# Altium schematic symbol library ST Microcontroller 32-Bit ARM.SchLib: 73 symbols (part 3 of 5)
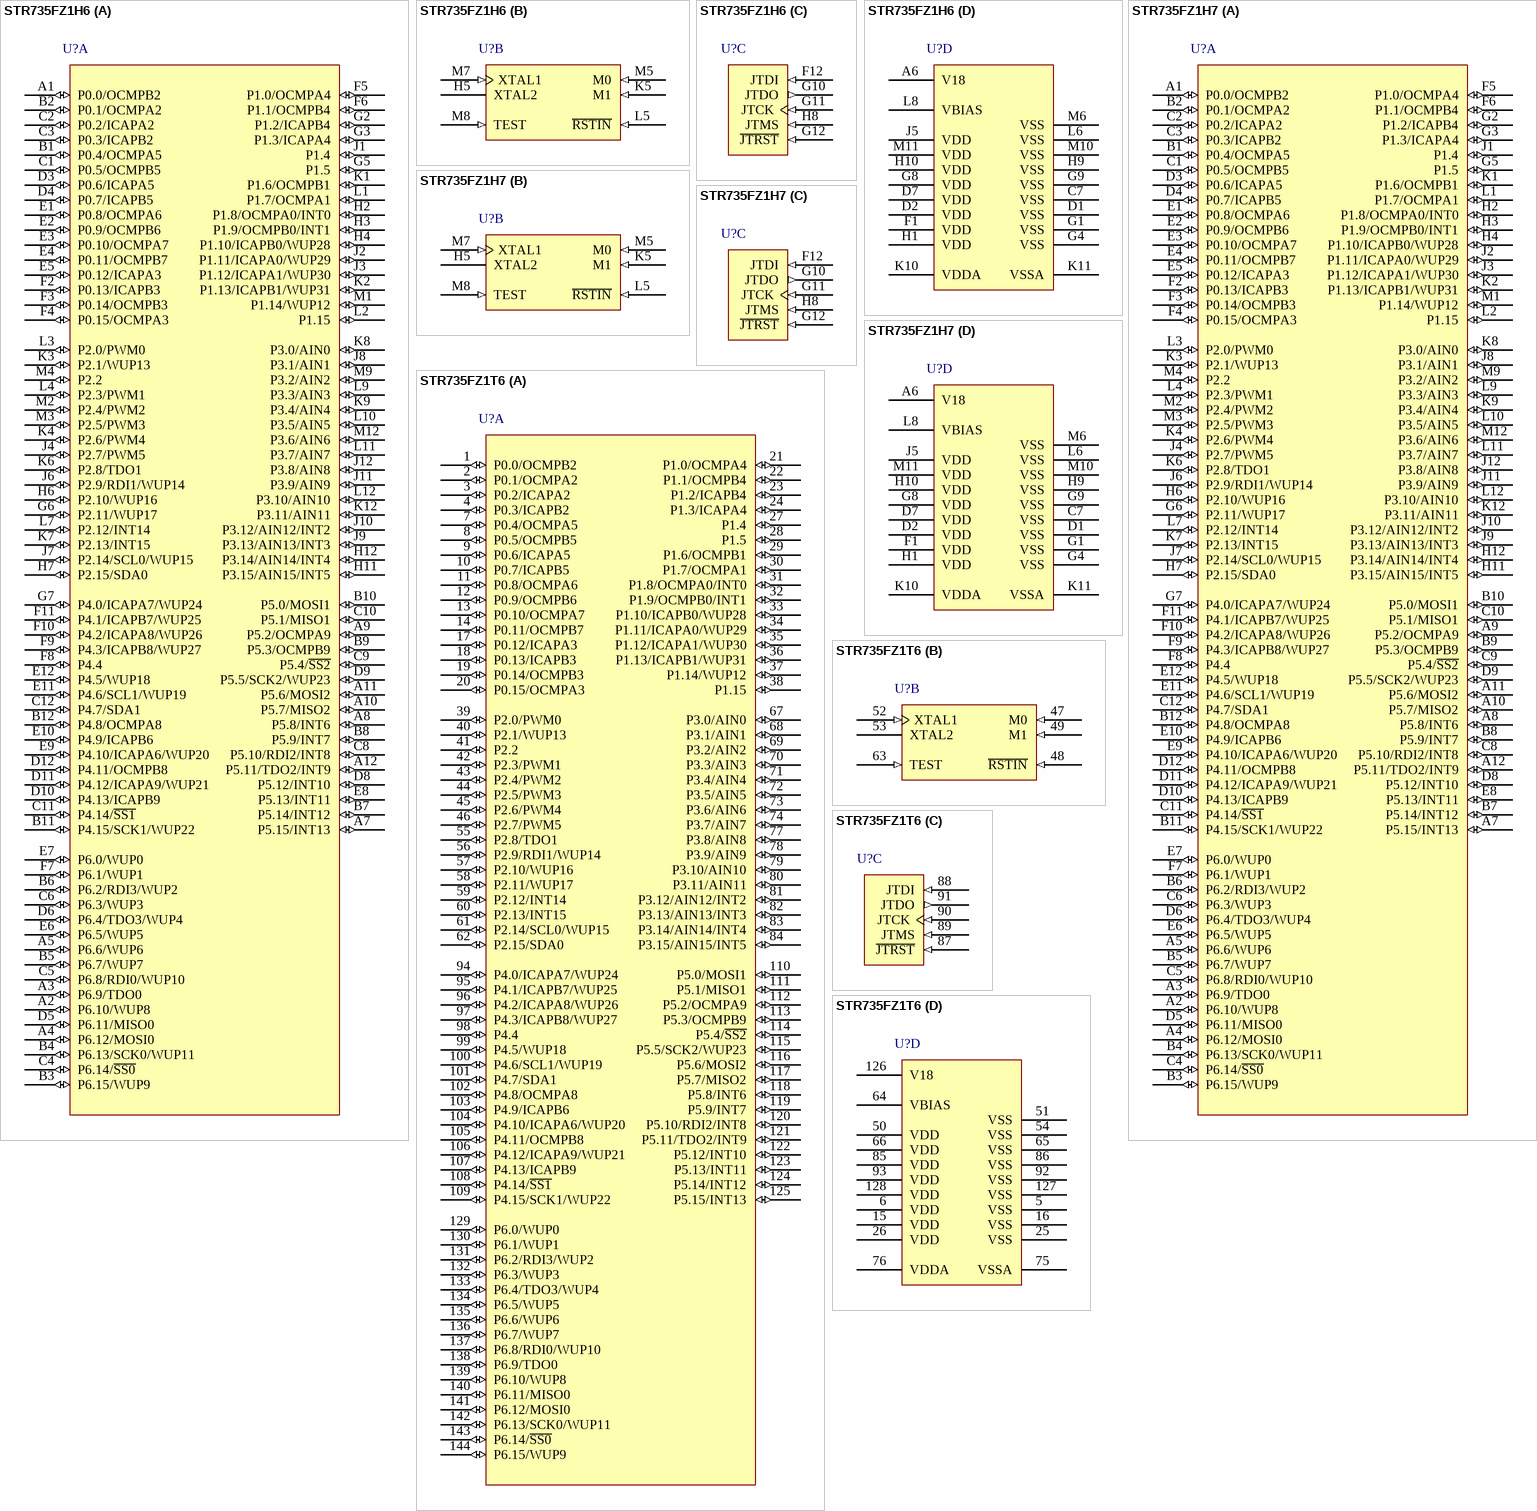
[diagram p23: symbols STR735FZ1H6 to STR735FZ1T6]

## STR735FZ1H6
designator U?
ARM7TDMI-S 32-Bit RISC CPU, 128KB Flash Memory, 144-ball LFBGA; Published: 12-Dec-2006; DatasheetVersion: rev6, Sep-2006; PackageVersion: Sep-2006; PackageReference: LFBGA144; Publisher: Altium Limited; PackageDescription: 144-Ball Low Profile Fine Pitch Ball Grid Array; ComponentLink1Description: Manufacturer Link; ComponentLink1URL: http://www.st.com/; ComponentLink2Description: Datasheet; ComponentLink2URL: http://www.st.com/stonline/products/literature/ds/11651.pdf
footprint LFBGA144 (BGA, 144-Leads, Body 10x10mm, Pitch 0.8mm)
part A pins: A1 P0.0/OCMPB2 (io), A2 P6.10/WUP8 (io), A3 P6.9/TDO0 (io), A4 P6.12/MOSI0 (io), A5 P6.6/WUP6 (io), A7 P5.15/INT13 (io), A8 P5.8/INT6 (io), A9 P5.2/OCMPA9 (io), A10 P5.7/MISO2 (io), A11 P5.6/MOSI2 (io), A12 P5.11/TDO2/INT9 (io), B1 P0.4/OCMPA5 (io), B2 P0.1/OCMPA2 (io), B3 P6.15/WUP9 (io), B4 P6.13/SCK0/WUP11 (io), B5 P6.7/WUP7 (io), B6 P6.2/RDI3/WUP2 (io), B7 P5.14/INT12 (io), B8 P5.9/INT7 (io), B9 P5.3/OCMPB9 (io), B10 P5.0/MOSI1 (io), B11 P4.15/SCK1/WUP22 (io), B12 P4.8/OCMPA8 (io), C1 P0.5/OCMPB5 (io), C2 P0.2/ICAPA2 (io), C3 P0.3/ICAPB2 (io), C4 P6.14/~{SS0} (io), C5 P6.8/RDI0/WUP10 (io), C6 P6.3/WUP3 (io), C8 P5.10/RDI2/INT8 (io), C9 P5.4/~{SS2} (io), C10 P5.1/MISO1 (io), C11 P4.14/~{SS1} (io), C12 P4.7/SDA1 (io), D3 P0.6/ICAPA5 (io), D4 P0.7/ICAPB5 (io), D5 P6.11/MISO0 (io), D6 P6.4/TDO3/WUP4 (io), D8 P5.12/INT10 (io), D9 P5.5/SCK2/WUP23 (io), D10 P4.13/ICAPB9 (io), D11 P4.12/ICAPA9/WUP21 (io), D12 P4.11/OCMPB8 (io), E1 P0.8/OCMPA6 (io), E2 P0.9/OCMPB6 (io), E3 P0.10/OCMPA7 (io), E4 P0.11/OCMPB7 (io), E5 P0.12/ICAPA3 (io), E6 P6.5/WUP5 (io), E7 P6.0/WUP0 (io), E8 P5.13/INT11 (io), E9 P4.10/ICAPA6/WUP20 (io), E10 P4.9/ICAPB6 (io), E11 P4.6/SCL1/WUP19 (io), E12 P4.5/WUP18 (io), F2 P0.13/ICAPB3 (io), F3 P0.14/OCMPB3 (io), F4 P0.15/OCMPA3 (io), F5 P1.0/OCMPA4 (io), F6 P1.1/OCMPB4 (io), F7 P6.1/WUP1 (io), F8 P4.4 (io), F9 P4.3/ICAPB8/WUP27 (io), F10 P4.2/ICAPA8/WUP26 (io), F11 P4.1/ICAPB7/WUP25 (io), G2 P1.2/ICAPB4 (io), G3 P1.3/ICAPA4 (io), G5 P1.5 (io), G6 P2.11/WUP17 (io), G7 P4.0/ICAPA7/WUP24 (io), H2 P1.8/OCMPA0/INT0 (io), H3 P1.9/OCMPB0/INT1 (io), H4 P1.10/ICAPB0/WUP28 (io), H6 P2.10/WUP16 (io), H7 P2.15/SDA0 (io), H11 P3.15/AIN15/INT5 (io), H12 P3.14/AIN14/INT4 (io), J1 P1.4 (io), J2 P1.11/ICAPA0/WUP29 (io), J3 P1.12/ICAPA1/WUP30 (io), J4 P2.7/PWM5 (io), J6 P2.9/RDI1/WUP14 (io), J7 P2.14/SCL0/WUP15 (io), J8 P3.1/AIN1 (io), J9 P3.13/AIN13/INT3 (io), J10 P3.12/AIN12/INT2 (io), J11 P3.9/AIN9 (io), J12 P3.8/AIN8 (io), K1 P1.6/OCMPB1 (io), K2 P1.13/ICAPB1/WUP31 (io), K3 P2.1/WUP13 (io), K4 P2.6/PWM4 (io), K6 P2.8/TDO1 (io), K7 P2.13/INT15 (io), K8 P3.0/AIN0 (io), K9 P3.4/AIN4 (io), K12 P3.11/AIN11 (io), L1 P1.7/OCMPA1 (io), L2 P1.15 (io), L3 P2.0/PWM0 (io), L4 P2.3/PWM1 (io), L7 P2.12/INT14 (io), L9 P3.3/AIN3 (io), L10 P3.5/AIN5 (io), L11 P3.7/AIN7 (io), L12 P3.10/AIN10 (io), M1 P1.14/WUP12 (io), M2 P2.4/PWM2 (io), M3 P2.5/PWM3 (io), M4 P2.2 (io), M9 P3.2/AIN2 (io), M12 P3.6/AIN6 (io)
part B pins: H5 XTAL2, K5 M1 (in), L5 ~{RSTIN} (in), M5 M0 (in), M7 XTAL1 (in), M8 TEST (in)
part C pins: F12 JTDI (in), G10 JTDO (out), G11 JTCK (in), G12 ~{JTRST} (in), H8 JTMS (in)
part D pins: A6 V18 (power), C7 VSS (power), D1 VSS (power), D2 VDD (power), D7 VDD (power), F1 VDD (power), G1 VSS (power), G4 VSS (power), G8 VDD (power), G9 VSS (power), H1 VDD (power), H9 VSS (power), H10 VDD (power), J5 VDD (power), K10 VDDA (power), K11 VSSA (power), L6 VSS (power), L8 VBIAS (power), M6 VSS (power), M10 VSS (power), M11 VDD (power)

## STR735FZ1H7
designator U?
ARM7TDMI-S 32-Bit RISC CPU, 128KB Flash Memory, 144-ball LFBGA; Published: 12-Dec-2006; DatasheetVersion: rev6, Sep-2006; PackageVersion: Sep-2006; PackageReference: LFBGA144; Publisher: Altium Limited; PackageDescription: 144-Ball Low Profile Fine Pitch Ball Grid Array; ComponentLink1Description: Manufacturer Link; ComponentLink1URL: http://www.st.com/; ComponentLink2Description: Datasheet; ComponentLink2URL: http://www.st.com/stonline/products/literature/ds/11651.pdf
footprint LFBGA144 (BGA, 144-Leads, Body 10x10mm, Pitch 0.8mm)
part A pins: A1 P0.0/OCMPB2 (io), A2 P6.10/WUP8 (io), A3 P6.9/TDO0 (io), A4 P6.12/MOSI0 (io), A5 P6.6/WUP6 (io), A7 P5.15/INT13 (io), A8 P5.8/INT6 (io), A9 P5.2/OCMPA9 (io), A10 P5.7/MISO2 (io), A11 P5.6/MOSI2 (io), A12 P5.11/TDO2/INT9 (io), B1 P0.4/OCMPA5 (io), B2 P0.1/OCMPA2 (io), B3 P6.15/WUP9 (io), B4 P6.13/SCK0/WUP11 (io), B5 P6.7/WUP7 (io), B6 P6.2/RDI3/WUP2 (io), B7 P5.14/INT12 (io), B8 P5.9/INT7 (io), B9 P5.3/OCMPB9 (io), B10 P5.0/MOSI1 (io), B11 P4.15/SCK1/WUP22 (io), B12 P4.8/OCMPA8 (io), C1 P0.5/OCMPB5 (io), C2 P0.2/ICAPA2 (io), C3 P0.3/ICAPB2 (io), C4 P6.14/~{SS0} (io), C5 P6.8/RDI0/WUP10 (io), C6 P6.3/WUP3 (io), C8 P5.10/RDI2/INT8 (io), C9 P5.4/~{SS2} (io), C10 P5.1/MISO1 (io), C11 P4.14/~{SS1} (io), C12 P4.7/SDA1 (io), D3 P0.6/ICAPA5 (io), D4 P0.7/ICAPB5 (io), D5 P6.11/MISO0 (io), D6 P6.4/TDO3/WUP4 (io), D8 P5.12/INT10 (io), D9 P5.5/SCK2/WUP23 (io), D10 P4.13/ICAPB9 (io), D11 P4.12/ICAPA9/WUP21 (io), D12 P4.11/OCMPB8 (io), E1 P0.8/OCMPA6 (io), E2 P0.9/OCMPB6 (io), E3 P0.10/OCMPA7 (io), E4 P0.11/OCMPB7 (io), E5 P0.12/ICAPA3 (io), E6 P6.5/WUP5 (io), E7 P6.0/WUP0 (io), E8 P5.13/INT11 (io), E9 P4.10/ICAPA6/WUP20 (io), E10 P4.9/ICAPB6 (io), E11 P4.6/SCL1/WUP19 (io), E12 P4.5/WUP18 (io), F2 P0.13/ICAPB3 (io), F3 P0.14/OCMPB3 (io), F4 P0.15/OCMPA3 (io), F5 P1.0/OCMPA4 (io), F6 P1.1/OCMPB4 (io), F7 P6.1/WUP1 (io), F8 P4.4 (io), F9 P4.3/ICAPB8/WUP27 (io), F10 P4.2/ICAPA8/WUP26 (io), F11 P4.1/ICAPB7/WUP25 (io), G2 P1.2/ICAPB4 (io), G3 P1.3/ICAPA4 (io), G5 P1.5 (io), G6 P2.11/WUP17 (io), G7 P4.0/ICAPA7/WUP24 (io), H2 P1.8/OCMPA0/INT0 (io), H3 P1.9/OCMPB0/INT1 (io), H4 P1.10/ICAPB0/WUP28 (io), H6 P2.10/WUP16 (io), H7 P2.15/SDA0 (io), H11 P3.15/AIN15/INT5 (io), H12 P3.14/AIN14/INT4 (io), J1 P1.4 (io), J2 P1.11/ICAPA0/WUP29 (io), J3 P1.12/ICAPA1/WUP30 (io), J4 P2.7/PWM5 (io), J6 P2.9/RDI1/WUP14 (io), J7 P2.14/SCL0/WUP15 (io), J8 P3.1/AIN1 (io), J9 P3.13/AIN13/INT3 (io), J10 P3.12/AIN12/INT2 (io), J11 P3.9/AIN9 (io), J12 P3.8/AIN8 (io), K1 P1.6/OCMPB1 (io), K2 P1.13/ICAPB1/WUP31 (io), K3 P2.1/WUP13 (io), K4 P2.6/PWM4 (io), K6 P2.8/TDO1 (io), K7 P2.13/INT15 (io), K8 P3.0/AIN0 (io), K9 P3.4/AIN4 (io), K12 P3.11/AIN11 (io), L1 P1.7/OCMPA1 (io), L2 P1.15 (io), L3 P2.0/PWM0 (io), L4 P2.3/PWM1 (io), L7 P2.12/INT14 (io), L9 P3.3/AIN3 (io), L10 P3.5/AIN5 (io), L11 P3.7/AIN7 (io), L12 P3.10/AIN10 (io), M1 P1.14/WUP12 (io), M2 P2.4/PWM2 (io), M3 P2.5/PWM3 (io), M4 P2.2 (io), M9 P3.2/AIN2 (io), M12 P3.6/AIN6 (io)
part B pins: H5 XTAL2, K5 M1 (in), L5 ~{RSTIN} (in), M5 M0 (in), M7 XTAL1 (in), M8 TEST (in)
part C pins: F12 JTDI (in), G10 JTDO (out), G11 JTCK (in), G12 ~{JTRST} (in), H8 JTMS (in)
part D pins: A6 V18 (power), C7 VSS (power), D1 VSS (power), D2 VDD (power), D7 VDD (power), F1 VDD (power), G1 VSS (power), G4 VSS (power), G8 VDD (power), G9 VSS (power), H1 VDD (power), H9 VSS (power), H10 VDD (power), J5 VDD (power), K10 VDDA (power), K11 VSSA (power), L6 VSS (power), L8 VBIAS (power), M6 VSS (power), M10 VSS (power), M11 VDD (power)

## STR735FZ1T6
designator U?
ARM7TDMI-S 32-Bit RISC CPU, 128KB Flash Memory, 144-pin TQFP; Published: 12-Dec-2006; DatasheetVersion: rev6, Sep-2006; PackageVersion: Mar-2003; PackageReference: TQFP144; Publisher: Altium Limited; PackageDescription: 144-Pin Thin Quad Flat Pack 0.5 mm Pitch; ComponentLink1Description: Manufacturer Link; ComponentLink1URL: http://www.st.com/; ComponentLink2Description: Datasheet; ComponentLink2URL: http://www.st.com/stonline/products/literature/ds/11651.pdf
footprint TQFP144_N (Thin QFP, 144-Leads, Body 20x20mm, Pitch 0.5mm, IPC Medium Density)
footprint TQFP144_L (Thin QFP, 144-Leads, Body 20x20mm, Pitch 0.5mm, IPC High Density)
footprint TQFP144_M (Thin QFP, 144-Leads, Body 20x20mm, Pitch 0.5mm, IPC Low Density)
part A pins: 1 P0.0/OCMPB2 (io), 2 P0.1/OCMPA2 (io), 3 P0.2/ICAPA2 (io), 4 P0.3/ICAPB2 (io), 7 P0.4/OCMPA5 (io), 8 P0.5/OCMPB5 (io), 9 P0.6/ICAPA5 (io), 10 P0.7/ICAPB5 (io), 11 P0.8/OCMPA6 (io), 12 P0.9/OCMPB6 (io), 13 P0.10/OCMPA7 (io), 14 P0.11/OCMPB7 (io), 17 P0.12/ICAPA3 (io), 18 P0.13/ICAPB3 (io), 19 P0.14/OCMPB3 (io), 20 P0.15/OCMPA3 (io), 21 P1.0/OCMPA4 (io), 22 P1.1/OCMPB4 (io), 23 P1.2/ICAPB4 (io), 24 P1.3/ICAPA4 (io), 27 P1.4 (io), 28 P1.5 (io), 29 P1.6/OCMPB1 (io), 30 P1.7/OCMPA1 (io), 31 P1.8/OCMPA0/INT0 (io), 32 P1.9/OCMPB0/INT1 (io), 33 P1.10/ICAPB0/WUP28 (io), 34 P1.11/ICAPA0/WUP29 (io), 35 P1.12/ICAPA1/WUP30 (io), 36 P1.13/ICAPB1/WUP31 (io), 37 P1.14/WUP12 (io), 38 P1.15 (io), 39 P2.0/PWM0 (io), 40 P2.1/WUP13 (io), 41 P2.2 (io), 42 P2.3/PWM1 (io), 43 P2.4/PWM2 (io), 44 P2.5/PWM3 (io), 45 P2.6/PWM4 (io), 46 P2.7/PWM5 (io), 55 P2.8/TDO1 (io), 56 P2.9/RDI1/WUP14 (io), 57 P2.10/WUP16 (io), 58 P2.11/WUP17 (io), 59 P2.12/INT14 (io), 60 P2.13/INT15 (io), 61 P2.14/SCL0/WUP15 (io), 62 P2.15/SDA0 (io), 67 P3.0/AIN0 (io), 68 P3.1/AIN1 (io), 69 P3.2/AIN2 (io), 70 P3.3/AIN3 (io), 71 P3.4/AIN4 (io), 72 P3.5/AIN5 (io), 73 P3.6/AIN6 (io), 74 P3.7/AIN7 (io), 77 P3.8/AIN8 (io), 78 P3.9/AIN9 (io), 79 P3.10/AIN10 (io), 80 P3.11/AIN11 (io), 81 P3.12/AIN12/INT2 (io), 82 P3.13/AIN13/INT3 (io), 83 P3.14/AIN14/INT4 (io), 84 P3.15/AIN15/INT5 (io), 94 P4.0/ICAPA7/WUP24 (io), 95 P4.1/ICAPB7/WUP25 (io), 96 P4.2/ICAPA8/WUP26 (io), 97 P4.3/ICAPB8/WUP27 (io), 98 P4.4 (io), 99 P4.5/WUP18 (io), 100 P4.6/SCL1/WUP19 (io), 101 P4.7/SDA1 (io), 102 P4.8/OCMPA8 (io), 103 P4.9/ICAPB6 (io), 104 P4.10/ICAPA6/WUP20 (io), 105 P4.11/OCMPB8 (io), 106 P4.12/ICAPA9/WUP21 (io), 107 P4.13/ICAPB9 (io), 108 P4.14/~{SS1} (io), 109 P4.15/SCK1/WUP22 (io), 110 P5.0/MOSI1 (io), 111 P5.1/MISO1 (io), 112 P5.2/OCMPA9 (io), 113 P5.3/OCMPB9 (io), 114 P5.4/~{SS2} (io), 115 P5.5/SCK2/WUP23 (io), 116 P5.6/MOSI2 (io), 117 P5.7/MISO2 (io), 118 P5.8/INT6 (io), 119 P5.9/INT7 (io), 120 P5.10/RDI2/INT8 (io), 121 P5.11/TDO2/INT9 (io), 122 P5.12/INT10 (io), 123 P5.13/INT11 (io), 124 P5.14/INT12 (io), 125 P5.15/INT13 (io), 129 P6.0/WUP0 (io), 130 P6.1/WUP1 (io), 131 P6.2/RDI3/WUP2 (io), 132 P6.3/WUP3 (io), 133 P6.4/TDO3/WUP4 (io), 134 P6.5/WUP5 (io), 135 P6.6/WUP6 (io), 136 P6.7/WUP7 (io), 137 P6.8/RDI0/WUP10 (io), 138 P6.9/TDO0 (io), 139 P6.10/WUP8 (io), 140 P6.11/MISO0 (io), 141 P6.12/MOSI0 (io), 142 P6.13/SCK0/WUP11 (io), 143 P6.14/~{SS0} (io), 144 P6.15/WUP9 (io)
part B pins: 47 M0 (in), 48 ~{RSTIN} (in), 49 M1 (in), 52 XTAL1 (in), 53 XTAL2, 63 TEST (in)
part C pins: 87 ~{JTRST} (in), 88 JTDI (in), 89 JTMS (in), 90 JTCK (in), 91 JTDO (out)
part D pins: 5 VSS (power), 6 VDD (power), 15 VDD (power), 16 VSS (power), 25 VSS (power), 26 VDD (power), 50 VDD (power), 51 VSS (power), 54 VSS (power), 64 VBIAS (power), 65 VSS (power), 66 VDD (power), 75 VSSA (power), 76 VDDA (power), 85 VDD (power), 86 VSS (power), 92 VSS (power), 93 VDD (power), 126 V18 (power), 127 VSS (power), 128 VDD (power)

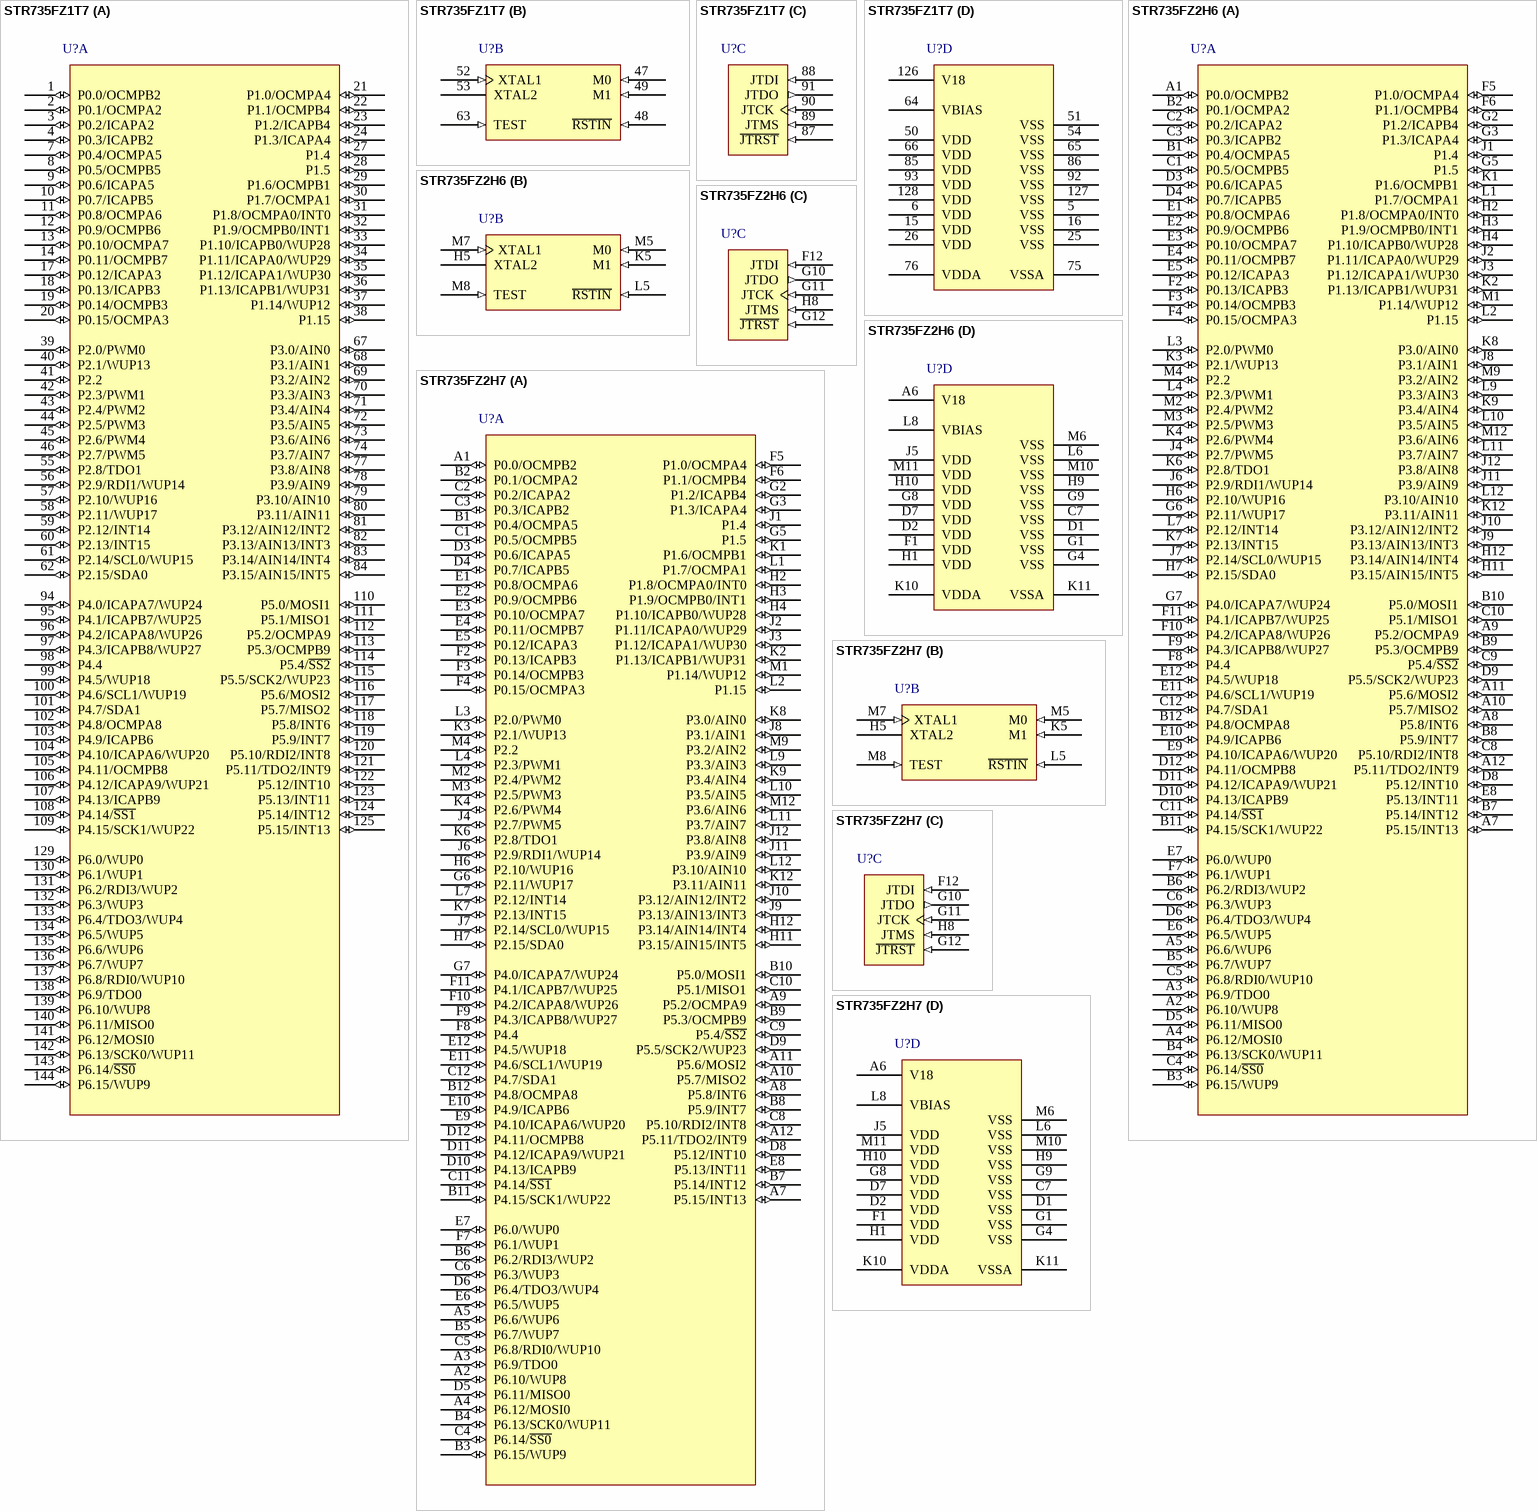
[diagram p11: symbols STR735FZ1T7 to STR735FZ2H7]

## STR735FZ1T7
designator U?
ARM7TDMI-S 32-Bit RISC CPU, 128KB Flash Memory, 144-pin TQFP; Published: 12-Dec-2006; DatasheetVersion: rev6, Sep-2006; PackageVersion: Mar-2003; PackageReference: TQFP144; Publisher: Altium Limited; PackageDescription: 144-Pin Thin Quad Flat Pack 0.5 mm Pitch; ComponentLink1Description: Manufacturer Link; ComponentLink1URL: http://www.st.com/; ComponentLink2Description: Datasheet; ComponentLink2URL: http://www.st.com/stonline/products/literature/ds/11651.pdf
footprint TQFP144_N (Thin QFP, 144-Leads, Body 20x20mm, Pitch 0.5mm, IPC Medium Density)
footprint TQFP144_L (Thin QFP, 144-Leads, Body 20x20mm, Pitch 0.5mm, IPC High Density)
footprint TQFP144_M (Thin QFP, 144-Leads, Body 20x20mm, Pitch 0.5mm, IPC Low Density)
part A pins: 1 P0.0/OCMPB2 (io), 2 P0.1/OCMPA2 (io), 3 P0.2/ICAPA2 (io), 4 P0.3/ICAPB2 (io), 7 P0.4/OCMPA5 (io), 8 P0.5/OCMPB5 (io), 9 P0.6/ICAPA5 (io), 10 P0.7/ICAPB5 (io), 11 P0.8/OCMPA6 (io), 12 P0.9/OCMPB6 (io), 13 P0.10/OCMPA7 (io), 14 P0.11/OCMPB7 (io), 17 P0.12/ICAPA3 (io), 18 P0.13/ICAPB3 (io), 19 P0.14/OCMPB3 (io), 20 P0.15/OCMPA3 (io), 21 P1.0/OCMPA4 (io), 22 P1.1/OCMPB4 (io), 23 P1.2/ICAPB4 (io), 24 P1.3/ICAPA4 (io), 27 P1.4 (io), 28 P1.5 (io), 29 P1.6/OCMPB1 (io), 30 P1.7/OCMPA1 (io), 31 P1.8/OCMPA0/INT0 (io), 32 P1.9/OCMPB0/INT1 (io), 33 P1.10/ICAPB0/WUP28 (io), 34 P1.11/ICAPA0/WUP29 (io), 35 P1.12/ICAPA1/WUP30 (io), 36 P1.13/ICAPB1/WUP31 (io), 37 P1.14/WUP12 (io), 38 P1.15 (io), 39 P2.0/PWM0 (io), 40 P2.1/WUP13 (io), 41 P2.2 (io), 42 P2.3/PWM1 (io), 43 P2.4/PWM2 (io), 44 P2.5/PWM3 (io), 45 P2.6/PWM4 (io), 46 P2.7/PWM5 (io), 55 P2.8/TDO1 (io), 56 P2.9/RDI1/WUP14 (io), 57 P2.10/WUP16 (io), 58 P2.11/WUP17 (io), 59 P2.12/INT14 (io), 60 P2.13/INT15 (io), 61 P2.14/SCL0/WUP15 (io), 62 P2.15/SDA0 (io), 67 P3.0/AIN0 (io), 68 P3.1/AIN1 (io), 69 P3.2/AIN2 (io), 70 P3.3/AIN3 (io), 71 P3.4/AIN4 (io), 72 P3.5/AIN5 (io), 73 P3.6/AIN6 (io), 74 P3.7/AIN7 (io), 77 P3.8/AIN8 (io), 78 P3.9/AIN9 (io), 79 P3.10/AIN10 (io), 80 P3.11/AIN11 (io), 81 P3.12/AIN12/INT2 (io), 82 P3.13/AIN13/INT3 (io), 83 P3.14/AIN14/INT4 (io), 84 P3.15/AIN15/INT5 (io), 94 P4.0/ICAPA7/WUP24 (io), 95 P4.1/ICAPB7/WUP25 (io), 96 P4.2/ICAPA8/WUP26 (io), 97 P4.3/ICAPB8/WUP27 (io), 98 P4.4 (io), 99 P4.5/WUP18 (io), 100 P4.6/SCL1/WUP19 (io), 101 P4.7/SDA1 (io), 102 P4.8/OCMPA8 (io), 103 P4.9/ICAPB6 (io), 104 P4.10/ICAPA6/WUP20 (io), 105 P4.11/OCMPB8 (io), 106 P4.12/ICAPA9/WUP21 (io), 107 P4.13/ICAPB9 (io), 108 P4.14/~{SS1} (io), 109 P4.15/SCK1/WUP22 (io), 110 P5.0/MOSI1 (io), 111 P5.1/MISO1 (io), 112 P5.2/OCMPA9 (io), 113 P5.3/OCMPB9 (io), 114 P5.4/~{SS2} (io), 115 P5.5/SCK2/WUP23 (io), 116 P5.6/MOSI2 (io), 117 P5.7/MISO2 (io), 118 P5.8/INT6 (io), 119 P5.9/INT7 (io), 120 P5.10/RDI2/INT8 (io), 121 P5.11/TDO2/INT9 (io), 122 P5.12/INT10 (io), 123 P5.13/INT11 (io), 124 P5.14/INT12 (io), 125 P5.15/INT13 (io), 129 P6.0/WUP0 (io), 130 P6.1/WUP1 (io), 131 P6.2/RDI3/WUP2 (io), 132 P6.3/WUP3 (io), 133 P6.4/TDO3/WUP4 (io), 134 P6.5/WUP5 (io), 135 P6.6/WUP6 (io), 136 P6.7/WUP7 (io), 137 P6.8/RDI0/WUP10 (io), 138 P6.9/TDO0 (io), 139 P6.10/WUP8 (io), 140 P6.11/MISO0 (io), 141 P6.12/MOSI0 (io), 142 P6.13/SCK0/WUP11 (io), 143 P6.14/~{SS0} (io), 144 P6.15/WUP9 (io)
part B pins: 47 M0 (in), 48 ~{RSTIN} (in), 49 M1 (in), 52 XTAL1 (in), 53 XTAL2, 63 TEST (in)
part C pins: 87 ~{JTRST} (in), 88 JTDI (in), 89 JTMS (in), 90 JTCK (in), 91 JTDO (out)
part D pins: 5 VSS (power), 6 VDD (power), 15 VDD (power), 16 VSS (power), 25 VSS (power), 26 VDD (power), 50 VDD (power), 51 VSS (power), 54 VSS (power), 64 VBIAS (power), 65 VSS (power), 66 VDD (power), 75 VSSA (power), 76 VDDA (power), 85 VDD (power), 86 VSS (power), 92 VSS (power), 93 VDD (power), 126 V18 (power), 127 VSS (power), 128 VDD (power)

## STR735FZ2H6
designator U?
ARM7TDMI-S 32-Bit RISC CPU, 256KB Flash Memory, 144-ball LFBGA; Published: 12-Dec-2006; DatasheetVersion: rev6, Sep-2006; PackageVersion: Sep-2006; PackageReference: LFBGA144; Publisher: Altium Limited; PackageDescription: 144-Ball Low Profile Fine Pitch Ball Grid Array; ComponentLink1Description: Manufacturer Link; ComponentLink1URL: http://www.st.com/; ComponentLink2Description: Datasheet; ComponentLink2URL: http://www.st.com/stonline/products/literature/ds/11651.pdf
footprint LFBGA144 (BGA, 144-Leads, Body 10x10mm, Pitch 0.8mm)
part A pins: A1 P0.0/OCMPB2 (io), A2 P6.10/WUP8 (io), A3 P6.9/TDO0 (io), A4 P6.12/MOSI0 (io), A5 P6.6/WUP6 (io), A7 P5.15/INT13 (io), A8 P5.8/INT6 (io), A9 P5.2/OCMPA9 (io), A10 P5.7/MISO2 (io), A11 P5.6/MOSI2 (io), A12 P5.11/TDO2/INT9 (io), B1 P0.4/OCMPA5 (io), B2 P0.1/OCMPA2 (io), B3 P6.15/WUP9 (io), B4 P6.13/SCK0/WUP11 (io), B5 P6.7/WUP7 (io), B6 P6.2/RDI3/WUP2 (io), B7 P5.14/INT12 (io), B8 P5.9/INT7 (io), B9 P5.3/OCMPB9 (io), B10 P5.0/MOSI1 (io), B11 P4.15/SCK1/WUP22 (io), B12 P4.8/OCMPA8 (io), C1 P0.5/OCMPB5 (io), C2 P0.2/ICAPA2 (io), C3 P0.3/ICAPB2 (io), C4 P6.14/~{SS0} (io), C5 P6.8/RDI0/WUP10 (io), C6 P6.3/WUP3 (io), C8 P5.10/RDI2/INT8 (io), C9 P5.4/~{SS2} (io), C10 P5.1/MISO1 (io), C11 P4.14/~{SS1} (io), C12 P4.7/SDA1 (io), D3 P0.6/ICAPA5 (io), D4 P0.7/ICAPB5 (io), D5 P6.11/MISO0 (io), D6 P6.4/TDO3/WUP4 (io), D8 P5.12/INT10 (io), D9 P5.5/SCK2/WUP23 (io), D10 P4.13/ICAPB9 (io), D11 P4.12/ICAPA9/WUP21 (io), D12 P4.11/OCMPB8 (io), E1 P0.8/OCMPA6 (io), E2 P0.9/OCMPB6 (io), E3 P0.10/OCMPA7 (io), E4 P0.11/OCMPB7 (io), E5 P0.12/ICAPA3 (io), E6 P6.5/WUP5 (io), E7 P6.0/WUP0 (io), E8 P5.13/INT11 (io), E9 P4.10/ICAPA6/WUP20 (io), E10 P4.9/ICAPB6 (io), E11 P4.6/SCL1/WUP19 (io), E12 P4.5/WUP18 (io), F2 P0.13/ICAPB3 (io), F3 P0.14/OCMPB3 (io), F4 P0.15/OCMPA3 (io), F5 P1.0/OCMPA4 (io), F6 P1.1/OCMPB4 (io), F7 P6.1/WUP1 (io), F8 P4.4 (io), F9 P4.3/ICAPB8/WUP27 (io), F10 P4.2/ICAPA8/WUP26 (io), F11 P4.1/ICAPB7/WUP25 (io), G2 P1.2/ICAPB4 (io), G3 P1.3/ICAPA4 (io), G5 P1.5 (io), G6 P2.11/WUP17 (io), G7 P4.0/ICAPA7/WUP24 (io), H2 P1.8/OCMPA0/INT0 (io), H3 P1.9/OCMPB0/INT1 (io), H4 P1.10/ICAPB0/WUP28 (io), H6 P2.10/WUP16 (io), H7 P2.15/SDA0 (io), H11 P3.15/AIN15/INT5 (io), H12 P3.14/AIN14/INT4 (io), J1 P1.4 (io), J2 P1.11/ICAPA0/WUP29 (io), J3 P1.12/ICAPA1/WUP30 (io), J4 P2.7/PWM5 (io), J6 P2.9/RDI1/WUP14 (io), J7 P2.14/SCL0/WUP15 (io), J8 P3.1/AIN1 (io), J9 P3.13/AIN13/INT3 (io), J10 P3.12/AIN12/INT2 (io), J11 P3.9/AIN9 (io), J12 P3.8/AIN8 (io), K1 P1.6/OCMPB1 (io), K2 P1.13/ICAPB1/WUP31 (io), K3 P2.1/WUP13 (io), K4 P2.6/PWM4 (io), K6 P2.8/TDO1 (io), K7 P2.13/INT15 (io), K8 P3.0/AIN0 (io), K9 P3.4/AIN4 (io), K12 P3.11/AIN11 (io), L1 P1.7/OCMPA1 (io), L2 P1.15 (io), L3 P2.0/PWM0 (io), L4 P2.3/PWM1 (io), L7 P2.12/INT14 (io), L9 P3.3/AIN3 (io), L10 P3.5/AIN5 (io), L11 P3.7/AIN7 (io), L12 P3.10/AIN10 (io), M1 P1.14/WUP12 (io), M2 P2.4/PWM2 (io), M3 P2.5/PWM3 (io), M4 P2.2 (io), M9 P3.2/AIN2 (io), M12 P3.6/AIN6 (io)
part B pins: H5 XTAL2, K5 M1 (in), L5 ~{RSTIN} (in), M5 M0 (in), M7 XTAL1 (in), M8 TEST (in)
part C pins: F12 JTDI (in), G10 JTDO (out), G11 JTCK (in), G12 ~{JTRST} (in), H8 JTMS (in)
part D pins: A6 V18 (power), C7 VSS (power), D1 VSS (power), D2 VDD (power), D7 VDD (power), F1 VDD (power), G1 VSS (power), G4 VSS (power), G8 VDD (power), G9 VSS (power), H1 VDD (power), H9 VSS (power), H10 VDD (power), J5 VDD (power), K10 VDDA (power), K11 VSSA (power), L6 VSS (power), L8 VBIAS (power), M6 VSS (power), M10 VSS (power), M11 VDD (power)

## STR735FZ2H7
designator U?
ARM7TDMI-S 32-Bit RISC CPU, 256KB Flash Memory, 144-ball LFBGA; Published: 12-Dec-2006; DatasheetVersion: rev6, Sep-2006; PackageVersion: Sep-2006; PackageReference: LFBGA144; Publisher: Altium Limited; PackageDescription: 144-Ball Low Profile Fine Pitch Ball Grid Array; ComponentLink1Description: Manufacturer Link; ComponentLink1URL: http://www.st.com/; ComponentLink2Description: Datasheet; ComponentLink2URL: http://www.st.com/stonline/products/literature/ds/11651.pdf
footprint LFBGA144 (BGA, 144-Leads, Body 10x10mm, Pitch 0.8mm)
part A pins: A1 P0.0/OCMPB2 (io), A2 P6.10/WUP8 (io), A3 P6.9/TDO0 (io), A4 P6.12/MOSI0 (io), A5 P6.6/WUP6 (io), A7 P5.15/INT13 (io), A8 P5.8/INT6 (io), A9 P5.2/OCMPA9 (io), A10 P5.7/MISO2 (io), A11 P5.6/MOSI2 (io), A12 P5.11/TDO2/INT9 (io), B1 P0.4/OCMPA5 (io), B2 P0.1/OCMPA2 (io), B3 P6.15/WUP9 (io), B4 P6.13/SCK0/WUP11 (io), B5 P6.7/WUP7 (io), B6 P6.2/RDI3/WUP2 (io), B7 P5.14/INT12 (io), B8 P5.9/INT7 (io), B9 P5.3/OCMPB9 (io), B10 P5.0/MOSI1 (io), B11 P4.15/SCK1/WUP22 (io), B12 P4.8/OCMPA8 (io), C1 P0.5/OCMPB5 (io), C2 P0.2/ICAPA2 (io), C3 P0.3/ICAPB2 (io), C4 P6.14/~{SS0} (io), C5 P6.8/RDI0/WUP10 (io), C6 P6.3/WUP3 (io), C8 P5.10/RDI2/INT8 (io), C9 P5.4/~{SS2} (io), C10 P5.1/MISO1 (io), C11 P4.14/~{SS1} (io), C12 P4.7/SDA1 (io), D3 P0.6/ICAPA5 (io), D4 P0.7/ICAPB5 (io), D5 P6.11/MISO0 (io), D6 P6.4/TDO3/WUP4 (io), D8 P5.12/INT10 (io), D9 P5.5/SCK2/WUP23 (io), D10 P4.13/ICAPB9 (io), D11 P4.12/ICAPA9/WUP21 (io), D12 P4.11/OCMPB8 (io), E1 P0.8/OCMPA6 (io), E2 P0.9/OCMPB6 (io), E3 P0.10/OCMPA7 (io), E4 P0.11/OCMPB7 (io), E5 P0.12/ICAPA3 (io), E6 P6.5/WUP5 (io), E7 P6.0/WUP0 (io), E8 P5.13/INT11 (io), E9 P4.10/ICAPA6/WUP20 (io), E10 P4.9/ICAPB6 (io), E11 P4.6/SCL1/WUP19 (io), E12 P4.5/WUP18 (io), F2 P0.13/ICAPB3 (io), F3 P0.14/OCMPB3 (io), F4 P0.15/OCMPA3 (io), F5 P1.0/OCMPA4 (io), F6 P1.1/OCMPB4 (io), F7 P6.1/WUP1 (io), F8 P4.4 (io), F9 P4.3/ICAPB8/WUP27 (io), F10 P4.2/ICAPA8/WUP26 (io), F11 P4.1/ICAPB7/WUP25 (io), G2 P1.2/ICAPB4 (io), G3 P1.3/ICAPA4 (io), G5 P1.5 (io), G6 P2.11/WUP17 (io), G7 P4.0/ICAPA7/WUP24 (io), H2 P1.8/OCMPA0/INT0 (io), H3 P1.9/OCMPB0/INT1 (io), H4 P1.10/ICAPB0/WUP28 (io), H6 P2.10/WUP16 (io), H7 P2.15/SDA0 (io), H11 P3.15/AIN15/INT5 (io), H12 P3.14/AIN14/INT4 (io), J1 P1.4 (io), J2 P1.11/ICAPA0/WUP29 (io), J3 P1.12/ICAPA1/WUP30 (io), J4 P2.7/PWM5 (io), J6 P2.9/RDI1/WUP14 (io), J7 P2.14/SCL0/WUP15 (io), J8 P3.1/AIN1 (io), J9 P3.13/AIN13/INT3 (io), J10 P3.12/AIN12/INT2 (io), J11 P3.9/AIN9 (io), J12 P3.8/AIN8 (io), K1 P1.6/OCMPB1 (io), K2 P1.13/ICAPB1/WUP31 (io), K3 P2.1/WUP13 (io), K4 P2.6/PWM4 (io), K6 P2.8/TDO1 (io), K7 P2.13/INT15 (io), K8 P3.0/AIN0 (io), K9 P3.4/AIN4 (io), K12 P3.11/AIN11 (io), L1 P1.7/OCMPA1 (io), L2 P1.15 (io), L3 P2.0/PWM0 (io), L4 P2.3/PWM1 (io), L7 P2.12/INT14 (io), L9 P3.3/AIN3 (io), L10 P3.5/AIN5 (io), L11 P3.7/AIN7 (io), L12 P3.10/AIN10 (io), M1 P1.14/WUP12 (io), M2 P2.4/PWM2 (io), M3 P2.5/PWM3 (io), M4 P2.2 (io), M9 P3.2/AIN2 (io), M12 P3.6/AIN6 (io)
part B pins: H5 XTAL2, K5 M1 (in), L5 ~{RSTIN} (in), M5 M0 (in), M7 XTAL1 (in), M8 TEST (in)
part C pins: F12 JTDI (in), G10 JTDO (out), G11 JTCK (in), G12 ~{JTRST} (in), H8 JTMS (in)
part D pins: A6 V18 (power), C7 VSS (power), D1 VSS (power), D2 VDD (power), D7 VDD (power), F1 VDD (power), G1 VSS (power), G4 VSS (power), G8 VDD (power), G9 VSS (power), H1 VDD (power), H9 VSS (power), H10 VDD (power), J5 VDD (power), K10 VDDA (power), K11 VSSA (power), L6 VSS (power), L8 VBIAS (power), M6 VSS (power), M10 VSS (power), M11 VDD (power)

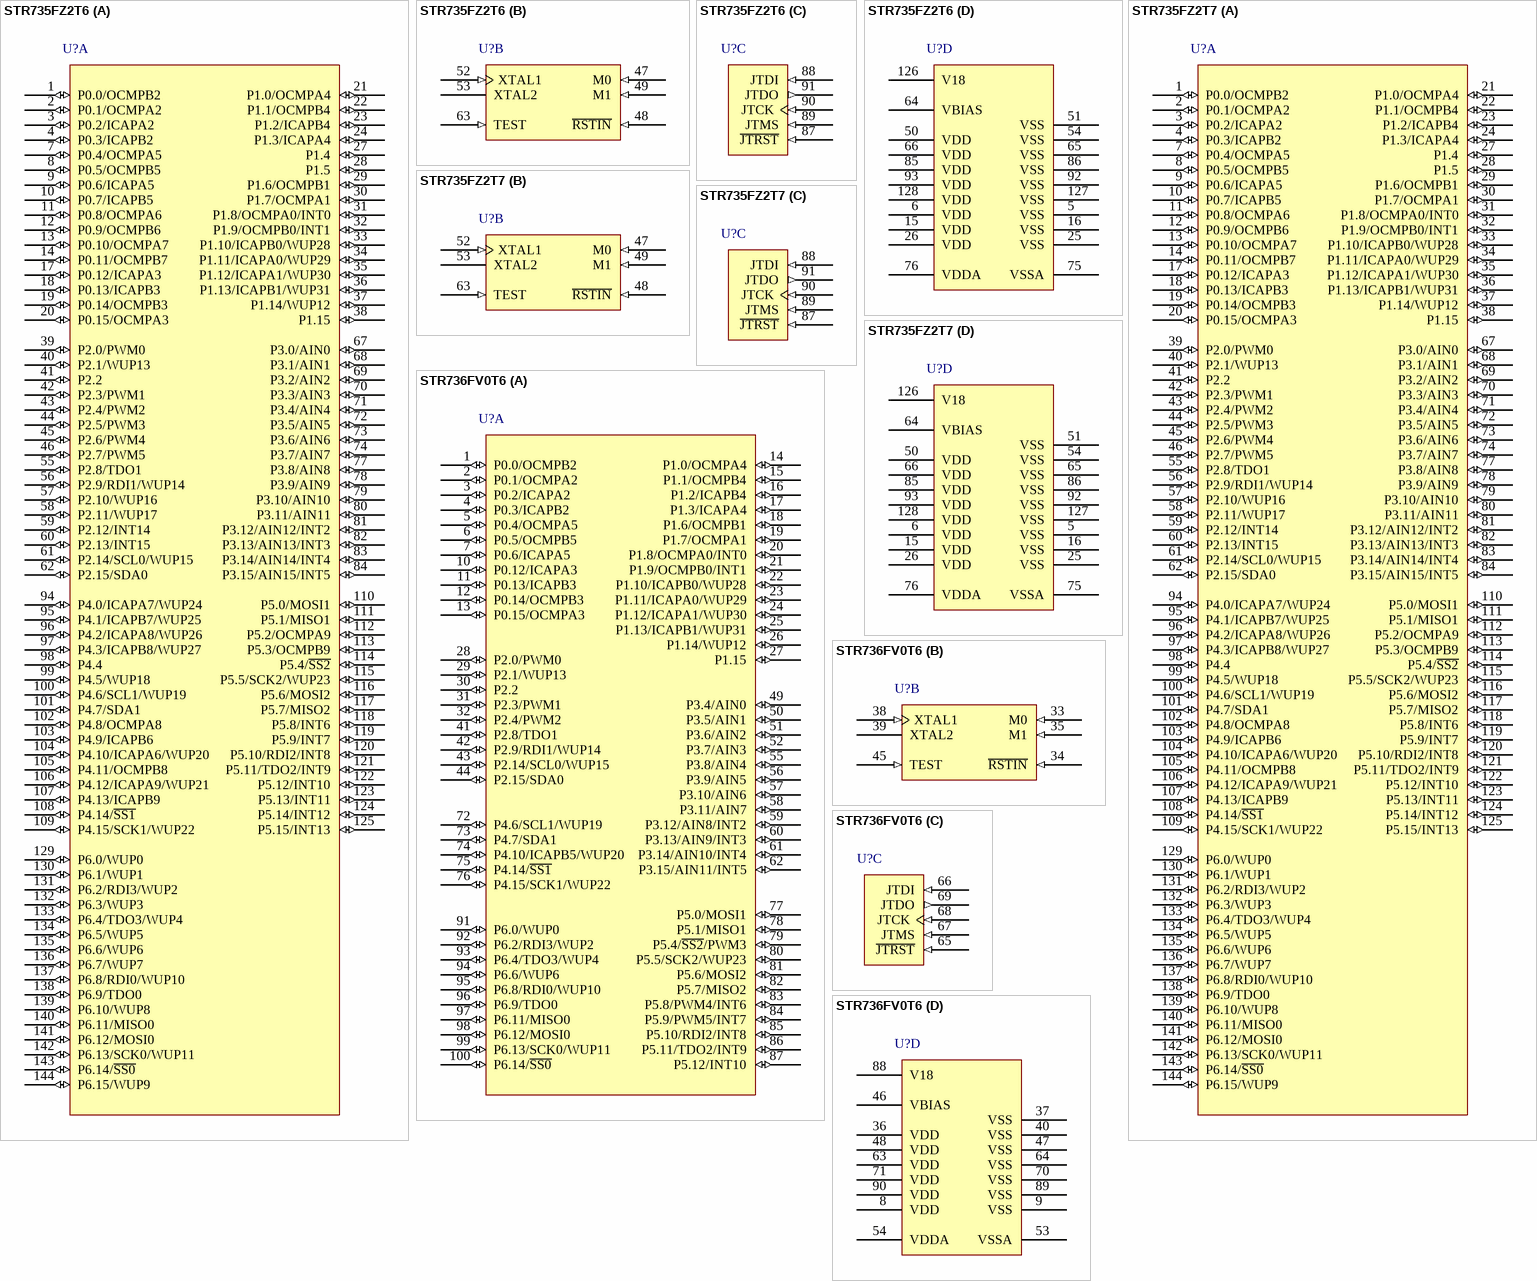
[diagram p12: symbols STR735FZ2T6 to STR736FV0T6]

## STR735FZ2T6
designator U?
ARM7TDMI-S 32-Bit RISC CPU, 256KB Flash Memory, 144-pin TQFP; Published: 12-Dec-2006; DatasheetVersion: rev6, Sep-2006; PackageVersion: Mar-2003; PackageReference: TQFP144; Publisher: Altium Limited; PackageDescription: 144-Pin Thin Quad Flat Pack 0.5 mm Pitch; ComponentLink1Description: Manufacturer Link; ComponentLink1URL: http://www.st.com/; ComponentLink2Description: Datasheet; ComponentLink2URL: http://www.st.com/stonline/products/literature/ds/11651.pdf
footprint TQFP144_N (Thin QFP, 144-Leads, Body 20x20mm, Pitch 0.5mm, IPC Medium Density)
footprint TQFP144_L (Thin QFP, 144-Leads, Body 20x20mm, Pitch 0.5mm, IPC High Density)
footprint TQFP144_M (Thin QFP, 144-Leads, Body 20x20mm, Pitch 0.5mm, IPC Low Density)
part A pins: 1 P0.0/OCMPB2 (io), 2 P0.1/OCMPA2 (io), 3 P0.2/ICAPA2 (io), 4 P0.3/ICAPB2 (io), 7 P0.4/OCMPA5 (io), 8 P0.5/OCMPB5 (io), 9 P0.6/ICAPA5 (io), 10 P0.7/ICAPB5 (io), 11 P0.8/OCMPA6 (io), 12 P0.9/OCMPB6 (io), 13 P0.10/OCMPA7 (io), 14 P0.11/OCMPB7 (io), 17 P0.12/ICAPA3 (io), 18 P0.13/ICAPB3 (io), 19 P0.14/OCMPB3 (io), 20 P0.15/OCMPA3 (io), 21 P1.0/OCMPA4 (io), 22 P1.1/OCMPB4 (io), 23 P1.2/ICAPB4 (io), 24 P1.3/ICAPA4 (io), 27 P1.4 (io), 28 P1.5 (io), 29 P1.6/OCMPB1 (io), 30 P1.7/OCMPA1 (io), 31 P1.8/OCMPA0/INT0 (io), 32 P1.9/OCMPB0/INT1 (io), 33 P1.10/ICAPB0/WUP28 (io), 34 P1.11/ICAPA0/WUP29 (io), 35 P1.12/ICAPA1/WUP30 (io), 36 P1.13/ICAPB1/WUP31 (io), 37 P1.14/WUP12 (io), 38 P1.15 (io), 39 P2.0/PWM0 (io), 40 P2.1/WUP13 (io), 41 P2.2 (io), 42 P2.3/PWM1 (io), 43 P2.4/PWM2 (io), 44 P2.5/PWM3 (io), 45 P2.6/PWM4 (io), 46 P2.7/PWM5 (io), 55 P2.8/TDO1 (io), 56 P2.9/RDI1/WUP14 (io), 57 P2.10/WUP16 (io), 58 P2.11/WUP17 (io), 59 P2.12/INT14 (io), 60 P2.13/INT15 (io), 61 P2.14/SCL0/WUP15 (io), 62 P2.15/SDA0 (io), 67 P3.0/AIN0 (io), 68 P3.1/AIN1 (io), 69 P3.2/AIN2 (io), 70 P3.3/AIN3 (io), 71 P3.4/AIN4 (io), 72 P3.5/AIN5 (io), 73 P3.6/AIN6 (io), 74 P3.7/AIN7 (io), 77 P3.8/AIN8 (io), 78 P3.9/AIN9 (io), 79 P3.10/AIN10 (io), 80 P3.11/AIN11 (io), 81 P3.12/AIN12/INT2 (io), 82 P3.13/AIN13/INT3 (io), 83 P3.14/AIN14/INT4 (io), 84 P3.15/AIN15/INT5 (io), 94 P4.0/ICAPA7/WUP24 (io), 95 P4.1/ICAPB7/WUP25 (io), 96 P4.2/ICAPA8/WUP26 (io), 97 P4.3/ICAPB8/WUP27 (io), 98 P4.4 (io), 99 P4.5/WUP18 (io), 100 P4.6/SCL1/WUP19 (io), 101 P4.7/SDA1 (io), 102 P4.8/OCMPA8 (io), 103 P4.9/ICAPB6 (io), 104 P4.10/ICAPA6/WUP20 (io), 105 P4.11/OCMPB8 (io), 106 P4.12/ICAPA9/WUP21 (io), 107 P4.13/ICAPB9 (io), 108 P4.14/~{SS1} (io), 109 P4.15/SCK1/WUP22 (io), 110 P5.0/MOSI1 (io), 111 P5.1/MISO1 (io), 112 P5.2/OCMPA9 (io), 113 P5.3/OCMPB9 (io), 114 P5.4/~{SS2} (io), 115 P5.5/SCK2/WUP23 (io), 116 P5.6/MOSI2 (io), 117 P5.7/MISO2 (io), 118 P5.8/INT6 (io), 119 P5.9/INT7 (io), 120 P5.10/RDI2/INT8 (io), 121 P5.11/TDO2/INT9 (io), 122 P5.12/INT10 (io), 123 P5.13/INT11 (io), 124 P5.14/INT12 (io), 125 P5.15/INT13 (io), 129 P6.0/WUP0 (io), 130 P6.1/WUP1 (io), 131 P6.2/RDI3/WUP2 (io), 132 P6.3/WUP3 (io), 133 P6.4/TDO3/WUP4 (io), 134 P6.5/WUP5 (io), 135 P6.6/WUP6 (io), 136 P6.7/WUP7 (io), 137 P6.8/RDI0/WUP10 (io), 138 P6.9/TDO0 (io), 139 P6.10/WUP8 (io), 140 P6.11/MISO0 (io), 141 P6.12/MOSI0 (io), 142 P6.13/SCK0/WUP11 (io), 143 P6.14/~{SS0} (io), 144 P6.15/WUP9 (io)
part B pins: 47 M0 (in), 48 ~{RSTIN} (in), 49 M1 (in), 52 XTAL1 (in), 53 XTAL2, 63 TEST (in)
part C pins: 87 ~{JTRST} (in), 88 JTDI (in), 89 JTMS (in), 90 JTCK (in), 91 JTDO (out)
part D pins: 5 VSS (power), 6 VDD (power), 15 VDD (power), 16 VSS (power), 25 VSS (power), 26 VDD (power), 50 VDD (power), 51 VSS (power), 54 VSS (power), 64 VBIAS (power), 65 VSS (power), 66 VDD (power), 75 VSSA (power), 76 VDDA (power), 85 VDD (power), 86 VSS (power), 92 VSS (power), 93 VDD (power), 126 V18 (power), 127 VSS (power), 128 VDD (power)

## STR735FZ2T7
designator U?
ARM7TDMI-S 32-Bit RISC CPU, 256KB Flash Memory, 144-pin TQFP; Published: 12-Dec-2006; DatasheetVersion: rev6, Sep-2006; PackageVersion: Mar-2003; PackageReference: TQFP144; Publisher: Altium Limited; PackageDescription: 144-Pin Thin Quad Flat Pack 0.5 mm Pitch; ComponentLink1Description: Manufacturer Link; ComponentLink1URL: http://www.st.com/; ComponentLink2Description: Datasheet; ComponentLink2URL: http://www.st.com/stonline/products/literature/ds/11651.pdf
footprint TQFP144_N (Thin QFP, 144-Leads, Body 20x20mm, Pitch 0.5mm, IPC Medium Density)
footprint TQFP144_L (Thin QFP, 144-Leads, Body 20x20mm, Pitch 0.5mm, IPC High Density)
footprint TQFP144_M (Thin QFP, 144-Leads, Body 20x20mm, Pitch 0.5mm, IPC Low Density)
part A pins: 1 P0.0/OCMPB2 (io), 2 P0.1/OCMPA2 (io), 3 P0.2/ICAPA2 (io), 4 P0.3/ICAPB2 (io), 7 P0.4/OCMPA5 (io), 8 P0.5/OCMPB5 (io), 9 P0.6/ICAPA5 (io), 10 P0.7/ICAPB5 (io), 11 P0.8/OCMPA6 (io), 12 P0.9/OCMPB6 (io), 13 P0.10/OCMPA7 (io), 14 P0.11/OCMPB7 (io), 17 P0.12/ICAPA3 (io), 18 P0.13/ICAPB3 (io), 19 P0.14/OCMPB3 (io), 20 P0.15/OCMPA3 (io), 21 P1.0/OCMPA4 (io), 22 P1.1/OCMPB4 (io), 23 P1.2/ICAPB4 (io), 24 P1.3/ICAPA4 (io), 27 P1.4 (io), 28 P1.5 (io), 29 P1.6/OCMPB1 (io), 30 P1.7/OCMPA1 (io), 31 P1.8/OCMPA0/INT0 (io), 32 P1.9/OCMPB0/INT1 (io), 33 P1.10/ICAPB0/WUP28 (io), 34 P1.11/ICAPA0/WUP29 (io), 35 P1.12/ICAPA1/WUP30 (io), 36 P1.13/ICAPB1/WUP31 (io), 37 P1.14/WUP12 (io), 38 P1.15 (io), 39 P2.0/PWM0 (io), 40 P2.1/WUP13 (io), 41 P2.2 (io), 42 P2.3/PWM1 (io), 43 P2.4/PWM2 (io), 44 P2.5/PWM3 (io), 45 P2.6/PWM4 (io), 46 P2.7/PWM5 (io), 55 P2.8/TDO1 (io), 56 P2.9/RDI1/WUP14 (io), 57 P2.10/WUP16 (io), 58 P2.11/WUP17 (io), 59 P2.12/INT14 (io), 60 P2.13/INT15 (io), 61 P2.14/SCL0/WUP15 (io), 62 P2.15/SDA0 (io), 67 P3.0/AIN0 (io), 68 P3.1/AIN1 (io), 69 P3.2/AIN2 (io), 70 P3.3/AIN3 (io), 71 P3.4/AIN4 (io), 72 P3.5/AIN5 (io), 73 P3.6/AIN6 (io), 74 P3.7/AIN7 (io), 77 P3.8/AIN8 (io), 78 P3.9/AIN9 (io), 79 P3.10/AIN10 (io), 80 P3.11/AIN11 (io), 81 P3.12/AIN12/INT2 (io), 82 P3.13/AIN13/INT3 (io), 83 P3.14/AIN14/INT4 (io), 84 P3.15/AIN15/INT5 (io), 94 P4.0/ICAPA7/WUP24 (io), 95 P4.1/ICAPB7/WUP25 (io), 96 P4.2/ICAPA8/WUP26 (io), 97 P4.3/ICAPB8/WUP27 (io), 98 P4.4 (io), 99 P4.5/WUP18 (io), 100 P4.6/SCL1/WUP19 (io), 101 P4.7/SDA1 (io), 102 P4.8/OCMPA8 (io), 103 P4.9/ICAPB6 (io), 104 P4.10/ICAPA6/WUP20 (io), 105 P4.11/OCMPB8 (io), 106 P4.12/ICAPA9/WUP21 (io), 107 P4.13/ICAPB9 (io), 108 P4.14/~{SS1} (io), 109 P4.15/SCK1/WUP22 (io), 110 P5.0/MOSI1 (io), 111 P5.1/MISO1 (io), 112 P5.2/OCMPA9 (io), 113 P5.3/OCMPB9 (io), 114 P5.4/~{SS2} (io), 115 P5.5/SCK2/WUP23 (io), 116 P5.6/MOSI2 (io), 117 P5.7/MISO2 (io), 118 P5.8/INT6 (io), 119 P5.9/INT7 (io), 120 P5.10/RDI2/INT8 (io), 121 P5.11/TDO2/INT9 (io), 122 P5.12/INT10 (io), 123 P5.13/INT11 (io), 124 P5.14/INT12 (io), 125 P5.15/INT13 (io), 129 P6.0/WUP0 (io), 130 P6.1/WUP1 (io), 131 P6.2/RDI3/WUP2 (io), 132 P6.3/WUP3 (io), 133 P6.4/TDO3/WUP4 (io), 134 P6.5/WUP5 (io), 135 P6.6/WUP6 (io), 136 P6.7/WUP7 (io), 137 P6.8/RDI0/WUP10 (io), 138 P6.9/TDO0 (io), 139 P6.10/WUP8 (io), 140 P6.11/MISO0 (io), 141 P6.12/MOSI0 (io), 142 P6.13/SCK0/WUP11 (io), 143 P6.14/~{SS0} (io), 144 P6.15/WUP9 (io)
part B pins: 47 M0 (in), 48 ~{RSTIN} (in), 49 M1 (in), 52 XTAL1 (in), 53 XTAL2, 63 TEST (in)
part C pins: 87 ~{JTRST} (in), 88 JTDI (in), 89 JTMS (in), 90 JTCK (in), 91 JTDO (out)
part D pins: 5 VSS (power), 6 VDD (power), 15 VDD (power), 16 VSS (power), 25 VSS (power), 26 VDD (power), 50 VDD (power), 51 VSS (power), 54 VSS (power), 64 VBIAS (power), 65 VSS (power), 66 VDD (power), 75 VSSA (power), 76 VDDA (power), 85 VDD (power), 86 VSS (power), 92 VSS (power), 93 VDD (power), 126 V18 (power), 127 VSS (power), 128 VDD (power)

## STR736FV0T6
designator U?
ARM7TDMI-S 32-Bit RISC CPU, 64KB Flash Memory, 100-pin TQFP; Published: 12-Dec-2006; DatasheetVersion: rev6, Sep-2006; PackageVersion: Dec-2002; PackageReference: TQFP100; Publisher: Altium Limited; PackageDescription: 100-Pin Thin Quad Flat Pack 0.5 mm Pitch; ComponentLink1Description: Manufacturer Link; ComponentLink1URL: http://www.st.com/; ComponentLink2Description: Datasheet; ComponentLink2URL: http://www.st.com/stonline/products/literature/ds/11651.pdf
footprint TQFP100_N (Thin QFP, 100-Leads, Body 14x14mm, Pitch 0.5mm, IPC Medium Density)
footprint TQFP100_L (Thin QFP, 100-Leads, Body 14x14mm, Pitch 0.5mm, IPC High Density)
footprint TQFP100_M (Thin QFP, 100-Leads, Body 14x14mm, Pitch 0.5mm, IPC Low Density)
part A pins: 1 P0.0/OCMPB2 (io), 2 P0.1/OCMPA2 (io), 3 P0.2/ICAPA2 (io), 4 P0.3/ICAPB2 (io), 5 P0.4/OCMPA5 (io), 6 P0.5/OCMPB5 (io), 7 P0.6/ICAPA5 (io), 10 P0.12/ICAPA3 (io), 11 P0.13/ICAPB3 (io), 12 P0.14/OCMPB3 (io), 13 P0.15/OCMPA3 (io), 14 P1.0/OCMPA4 (io), 15 P1.1/OCMPB4 (io), 16 P1.2/ICAPB4 (io), 17 P1.3/ICAPA4 (io), 18 P1.6/OCMPB1 (io), 19 P1.7/OCMPA1 (io), 20 P1.8/OCMPA0/INT0 (io), 21 P1.9/OCMPB0/INT1 (io), 22 P1.10/ICAPB0/WUP28 (io), 23 P1.11/ICAPA0/WUP29 (io), 24 P1.12/ICAPA1/WUP30 (io), 25 P1.13/ICAPB1/WUP31 (io), 26 P1.14/WUP12 (io), 27 P1.15 (io), 28 P2.0/PWM0 (io), 29 P2.1/WUP13 (io), 30 P2.2 (io), 31 P2.3/PWM1 (io), 32 P2.4/PWM2 (io), 41 P2.8/TDO1 (io), 42 P2.9/RDI1/WUP14 (io), 43 P2.14/SCL0/WUP15 (io), 44 P2.15/SDA0 (io), 49 P3.4/AIN0 (io), 50 P3.5/AIN1 (io), 51 P3.6/AIN2 (io), 52 P3.7/AIN3 (io), 55 P3.8/AIN4 (io), 56 P3.9/AIN5 (io), 57 P3.10/AIN6 (io), 58 P3.11/AIN7 (io), 59 P3.12/AIN8/INT2 (io), 60 P3.13/AIN9/INT3 (io), 61 P3.14/AIN10/INT4 (io), 62 P3.15/AIN11/INT5 (io), 72 P4.6/SCL1/WUP19 (io), 73 P4.7/SDA1 (io), 74 P4.10/ICAPB5/WUP20 (io), 75 P4.14/~{SS1} (io), 76 P4.15/SCK1/WUP22 (io), 77 P5.0/MOSI1 (io), 78 P5.1/MISO1 (io), 79 P5.4/~{SS2}/PWM3 (io), 80 P5.5/SCK2/WUP23 (io), 81 P5.6/MOSI2 (io), 82 P5.7/MISO2 (io), 83 P5.8/PWM4/INT6 (io), 84 P5.9/PWM5/INT7 (io), 85 P5.10/RDI2/INT8 (io), 86 P5.11/TDO2/INT9 (io), 87 P5.12/INT10 (io), 91 P6.0/WUP0 (io), 92 P6.2/RDI3/WUP2 (io), 93 P6.4/TDO3/WUP4 (io), 94 P6.6/WUP6 (io), 95 P6.8/RDI0/WUP10 (io), 96 P6.9/TDO0 (io), 97 P6.11/MISO0 (io), 98 P6.12/MOSI0 (io), 99 P6.13/SCK0/WUP11 (io), 100 P6.14/~{SS0} (io)
part B pins: 33 M0 (in), 34 ~{RSTIN} (in), 35 M1 (in), 38 XTAL1 (in), 39 XTAL2, 45 TEST (in)
part C pins: 65 ~{JTRST} (in), 66 JTDI (in), 67 JTMS (in), 68 JTCK (in), 69 JTDO (out)
part D pins: 8 VDD (power), 9 VSS (power), 36 VDD (power), 37 VSS (power), 40 VSS (power), 46 VBIAS (power), 47 VSS (power), 48 VDD (power), 53 VSSA (power), 54 VDDA (power), 63 VDD (power), 64 VSS (power), 70 VSS (power), 71 VDD (power), 88 V18 (power), 89 VSS (power), 90 VDD (power)

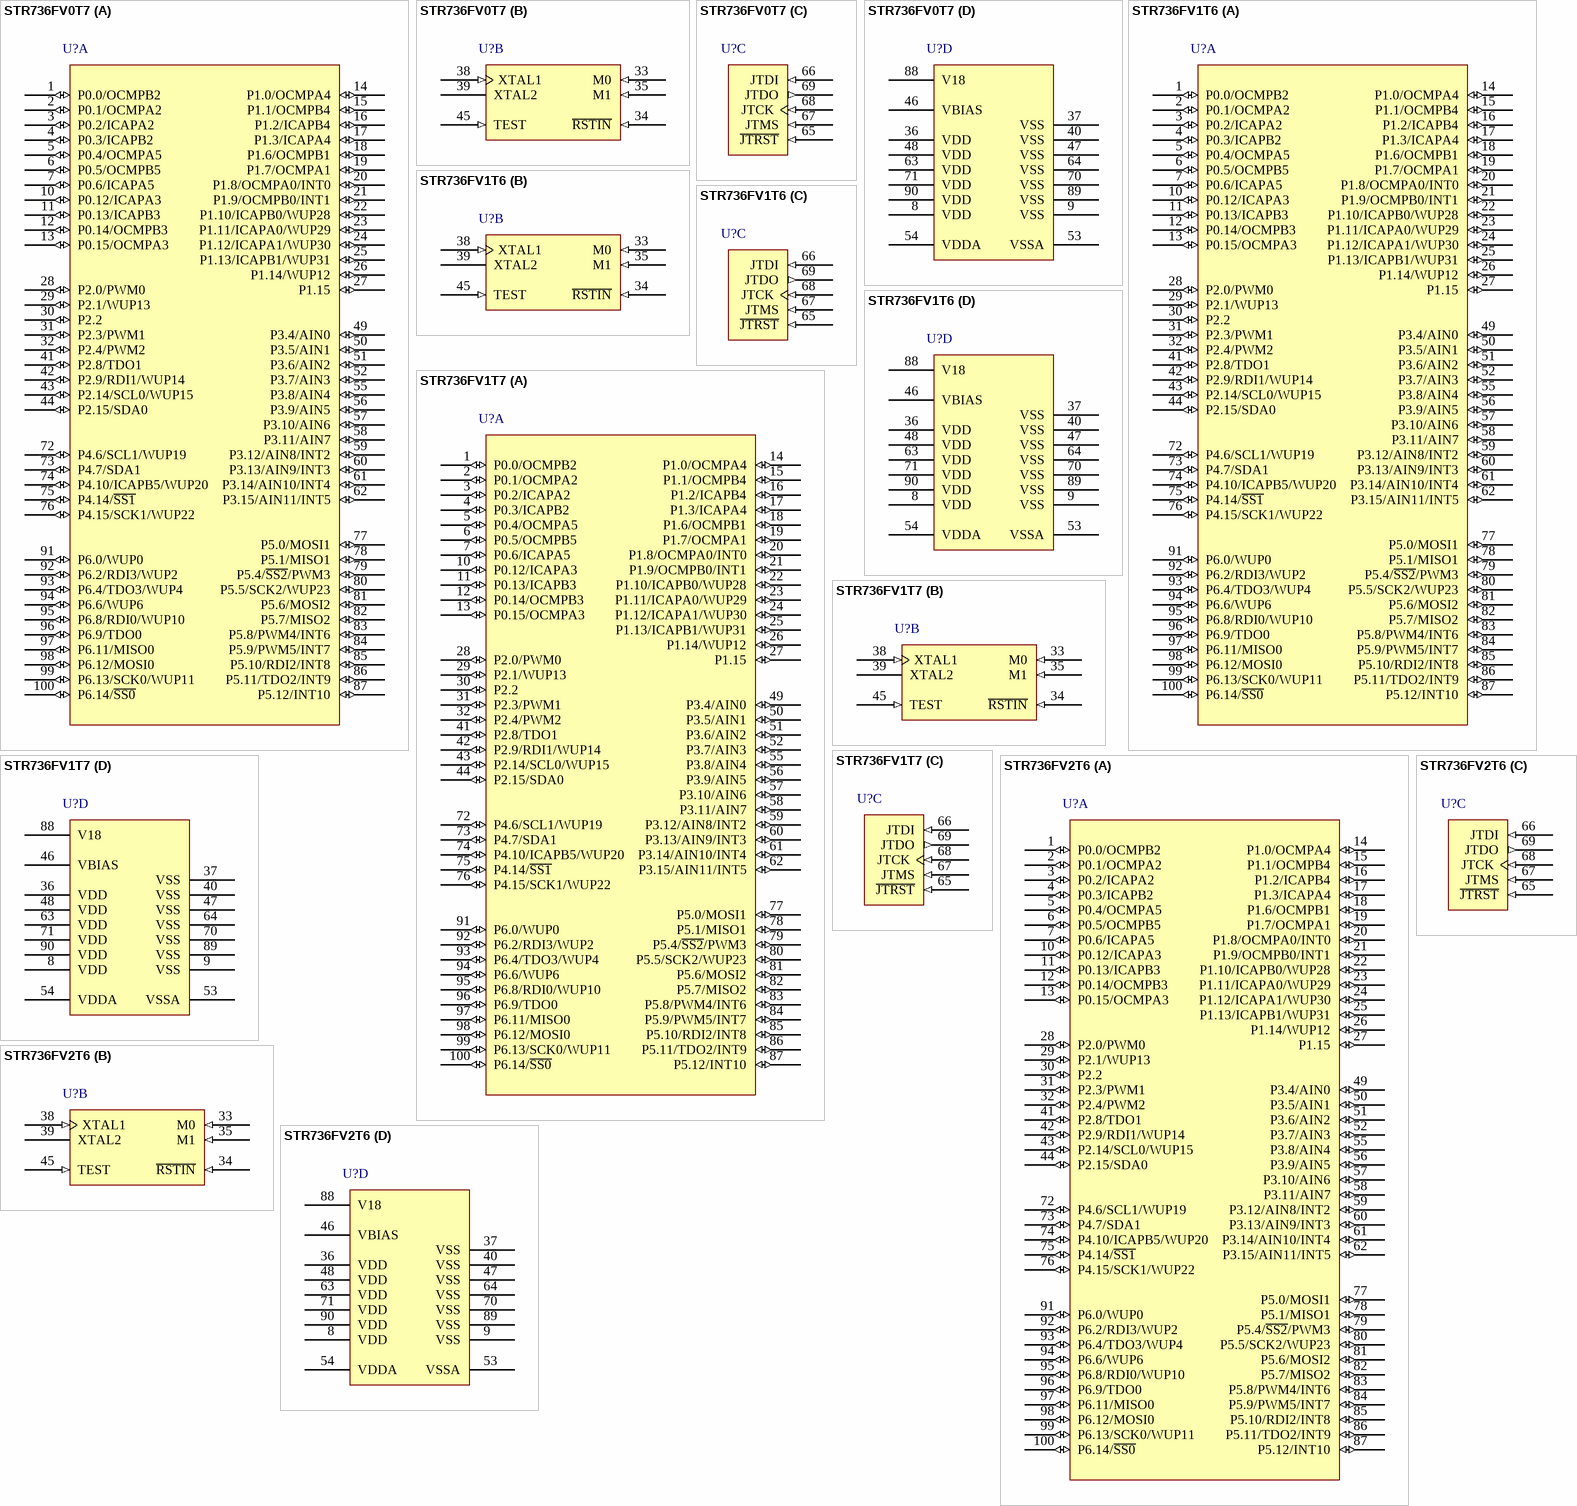
[diagram p13: symbols STR736FV0T7 to STR736FV2T6]

## STR736FV0T7
designator U?
ARM7TDMI-S 32-Bit RISC CPU, 64KB Flash Memory, 100-pin TQFP; Published: 12-Dec-2006; DatasheetVersion: rev6, Sep-2006; PackageVersion: Dec-2002; PackageReference: TQFP100; Publisher: Altium Limited; PackageDescription: 100-Pin Thin Quad Flat Pack 0.5 mm Pitch; ComponentLink1Description: Manufacturer Link; ComponentLink1URL: http://www.st.com/; ComponentLink2Description: Datasheet; ComponentLink2URL: http://www.st.com/stonline/products/literature/ds/11651.pdf
footprint TQFP100_N (Thin QFP, 100-Leads, Body 14x14mm, Pitch 0.5mm, IPC Medium Density)
footprint TQFP100_L (Thin QFP, 100-Leads, Body 14x14mm, Pitch 0.5mm, IPC High Density)
footprint TQFP100_M (Thin QFP, 100-Leads, Body 14x14mm, Pitch 0.5mm, IPC Low Density)
part A pins: 1 P0.0/OCMPB2 (io), 2 P0.1/OCMPA2 (io), 3 P0.2/ICAPA2 (io), 4 P0.3/ICAPB2 (io), 5 P0.4/OCMPA5 (io), 6 P0.5/OCMPB5 (io), 7 P0.6/ICAPA5 (io), 10 P0.12/ICAPA3 (io), 11 P0.13/ICAPB3 (io), 12 P0.14/OCMPB3 (io), 13 P0.15/OCMPA3 (io), 14 P1.0/OCMPA4 (io), 15 P1.1/OCMPB4 (io), 16 P1.2/ICAPB4 (io), 17 P1.3/ICAPA4 (io), 18 P1.6/OCMPB1 (io), 19 P1.7/OCMPA1 (io), 20 P1.8/OCMPA0/INT0 (io), 21 P1.9/OCMPB0/INT1 (io), 22 P1.10/ICAPB0/WUP28 (io), 23 P1.11/ICAPA0/WUP29 (io), 24 P1.12/ICAPA1/WUP30 (io), 25 P1.13/ICAPB1/WUP31 (io), 26 P1.14/WUP12 (io), 27 P1.15 (io), 28 P2.0/PWM0 (io), 29 P2.1/WUP13 (io), 30 P2.2 (io), 31 P2.3/PWM1 (io), 32 P2.4/PWM2 (io), 41 P2.8/TDO1 (io), 42 P2.9/RDI1/WUP14 (io), 43 P2.14/SCL0/WUP15 (io), 44 P2.15/SDA0 (io), 49 P3.4/AIN0 (io), 50 P3.5/AIN1 (io), 51 P3.6/AIN2 (io), 52 P3.7/AIN3 (io), 55 P3.8/AIN4 (io), 56 P3.9/AIN5 (io), 57 P3.10/AIN6 (io), 58 P3.11/AIN7 (io), 59 P3.12/AIN8/INT2 (io), 60 P3.13/AIN9/INT3 (io), 61 P3.14/AIN10/INT4 (io), 62 P3.15/AIN11/INT5 (io), 72 P4.6/SCL1/WUP19 (io), 73 P4.7/SDA1 (io), 74 P4.10/ICAPB5/WUP20 (io), 75 P4.14/~{SS1} (io), 76 P4.15/SCK1/WUP22 (io), 77 P5.0/MOSI1 (io), 78 P5.1/MISO1 (io), 79 P5.4/~{SS2}/PWM3 (io), 80 P5.5/SCK2/WUP23 (io), 81 P5.6/MOSI2 (io), 82 P5.7/MISO2 (io), 83 P5.8/PWM4/INT6 (io), 84 P5.9/PWM5/INT7 (io), 85 P5.10/RDI2/INT8 (io), 86 P5.11/TDO2/INT9 (io), 87 P5.12/INT10 (io), 91 P6.0/WUP0 (io), 92 P6.2/RDI3/WUP2 (io), 93 P6.4/TDO3/WUP4 (io), 94 P6.6/WUP6 (io), 95 P6.8/RDI0/WUP10 (io), 96 P6.9/TDO0 (io), 97 P6.11/MISO0 (io), 98 P6.12/MOSI0 (io), 99 P6.13/SCK0/WUP11 (io), 100 P6.14/~{SS0} (io)
part B pins: 33 M0 (in), 34 ~{RSTIN} (in), 35 M1 (in), 38 XTAL1 (in), 39 XTAL2, 45 TEST (in)
part C pins: 65 ~{JTRST} (in), 66 JTDI (in), 67 JTMS (in), 68 JTCK (in), 69 JTDO (out)
part D pins: 8 VDD (power), 9 VSS (power), 36 VDD (power), 37 VSS (power), 40 VSS (power), 46 VBIAS (power), 47 VSS (power), 48 VDD (power), 53 VSSA (power), 54 VDDA (power), 63 VDD (power), 64 VSS (power), 70 VSS (power), 71 VDD (power), 88 V18 (power), 89 VSS (power), 90 VDD (power)

## STR736FV1T6
designator U?
ARM7TDMI-S 32-Bit RISC CPU, 128KB Flash Memory, 100-pin TQFP; Published: 12-Dec-2006; DatasheetVersion: rev6, Sep-2006; PackageVersion: Dec-2002; PackageReference: TQFP100; Publisher: Altium Limited; PackageDescription: 100-Pin Thin Quad Flat Pack 0.5 mm Pitch; ComponentLink1Description: Manufacturer Link; ComponentLink1URL: http://www.st.com/; ComponentLink2Description: Datasheet; ComponentLink2URL: http://www.st.com/stonline/products/literature/ds/11651.pdf
footprint TQFP100_N (Thin QFP, 100-Leads, Body 14x14mm, Pitch 0.5mm, IPC Medium Density)
footprint TQFP100_L (Thin QFP, 100-Leads, Body 14x14mm, Pitch 0.5mm, IPC High Density)
footprint TQFP100_M (Thin QFP, 100-Leads, Body 14x14mm, Pitch 0.5mm, IPC Low Density)
part A pins: 1 P0.0/OCMPB2 (io), 2 P0.1/OCMPA2 (io), 3 P0.2/ICAPA2 (io), 4 P0.3/ICAPB2 (io), 5 P0.4/OCMPA5 (io), 6 P0.5/OCMPB5 (io), 7 P0.6/ICAPA5 (io), 10 P0.12/ICAPA3 (io), 11 P0.13/ICAPB3 (io), 12 P0.14/OCMPB3 (io), 13 P0.15/OCMPA3 (io), 14 P1.0/OCMPA4 (io), 15 P1.1/OCMPB4 (io), 16 P1.2/ICAPB4 (io), 17 P1.3/ICAPA4 (io), 18 P1.6/OCMPB1 (io), 19 P1.7/OCMPA1 (io), 20 P1.8/OCMPA0/INT0 (io), 21 P1.9/OCMPB0/INT1 (io), 22 P1.10/ICAPB0/WUP28 (io), 23 P1.11/ICAPA0/WUP29 (io), 24 P1.12/ICAPA1/WUP30 (io), 25 P1.13/ICAPB1/WUP31 (io), 26 P1.14/WUP12 (io), 27 P1.15 (io), 28 P2.0/PWM0 (io), 29 P2.1/WUP13 (io), 30 P2.2 (io), 31 P2.3/PWM1 (io), 32 P2.4/PWM2 (io), 41 P2.8/TDO1 (io), 42 P2.9/RDI1/WUP14 (io), 43 P2.14/SCL0/WUP15 (io), 44 P2.15/SDA0 (io), 49 P3.4/AIN0 (io), 50 P3.5/AIN1 (io), 51 P3.6/AIN2 (io), 52 P3.7/AIN3 (io), 55 P3.8/AIN4 (io), 56 P3.9/AIN5 (io), 57 P3.10/AIN6 (io), 58 P3.11/AIN7 (io), 59 P3.12/AIN8/INT2 (io), 60 P3.13/AIN9/INT3 (io), 61 P3.14/AIN10/INT4 (io), 62 P3.15/AIN11/INT5 (io), 72 P4.6/SCL1/WUP19 (io), 73 P4.7/SDA1 (io), 74 P4.10/ICAPB5/WUP20 (io), 75 P4.14/~{SS1} (io), 76 P4.15/SCK1/WUP22 (io), 77 P5.0/MOSI1 (io), 78 P5.1/MISO1 (io), 79 P5.4/~{SS2}/PWM3 (io), 80 P5.5/SCK2/WUP23 (io), 81 P5.6/MOSI2 (io), 82 P5.7/MISO2 (io), 83 P5.8/PWM4/INT6 (io), 84 P5.9/PWM5/INT7 (io), 85 P5.10/RDI2/INT8 (io), 86 P5.11/TDO2/INT9 (io), 87 P5.12/INT10 (io), 91 P6.0/WUP0 (io), 92 P6.2/RDI3/WUP2 (io), 93 P6.4/TDO3/WUP4 (io), 94 P6.6/WUP6 (io), 95 P6.8/RDI0/WUP10 (io), 96 P6.9/TDO0 (io), 97 P6.11/MISO0 (io), 98 P6.12/MOSI0 (io), 99 P6.13/SCK0/WUP11 (io), 100 P6.14/~{SS0} (io)
part B pins: 33 M0 (in), 34 ~{RSTIN} (in), 35 M1 (in), 38 XTAL1 (in), 39 XTAL2, 45 TEST (in)
part C pins: 65 ~{JTRST} (in), 66 JTDI (in), 67 JTMS (in), 68 JTCK (in), 69 JTDO (out)
part D pins: 8 VDD (power), 9 VSS (power), 36 VDD (power), 37 VSS (power), 40 VSS (power), 46 VBIAS (power), 47 VSS (power), 48 VDD (power), 53 VSSA (power), 54 VDDA (power), 63 VDD (power), 64 VSS (power), 70 VSS (power), 71 VDD (power), 88 V18 (power), 89 VSS (power), 90 VDD (power)

## STR736FV1T7
designator U?
ARM7TDMI-S 32-Bit RISC CPU, 128KB Flash Memory, 100-pin TQFP; Published: 12-Dec-2006; DatasheetVersion: rev6, Sep-2006; PackageVersion: Dec-2002; PackageReference: TQFP100; Publisher: Altium Limited; PackageDescription: 100-Pin Thin Quad Flat Pack 0.5 mm Pitch; ComponentLink1Description: Manufacturer Link; ComponentLink1URL: http://www.st.com/; ComponentLink2Description: Datasheet; ComponentLink2URL: http://www.st.com/stonline/products/literature/ds/11651.pdf
footprint TQFP100_N (Thin QFP, 100-Leads, Body 14x14mm, Pitch 0.5mm, IPC Medium Density)
footprint TQFP100_L (Thin QFP, 100-Leads, Body 14x14mm, Pitch 0.5mm, IPC High Density)
footprint TQFP100_M (Thin QFP, 100-Leads, Body 14x14mm, Pitch 0.5mm, IPC Low Density)
part A pins: 1 P0.0/OCMPB2 (io), 2 P0.1/OCMPA2 (io), 3 P0.2/ICAPA2 (io), 4 P0.3/ICAPB2 (io), 5 P0.4/OCMPA5 (io), 6 P0.5/OCMPB5 (io), 7 P0.6/ICAPA5 (io), 10 P0.12/ICAPA3 (io), 11 P0.13/ICAPB3 (io), 12 P0.14/OCMPB3 (io), 13 P0.15/OCMPA3 (io), 14 P1.0/OCMPA4 (io), 15 P1.1/OCMPB4 (io), 16 P1.2/ICAPB4 (io), 17 P1.3/ICAPA4 (io), 18 P1.6/OCMPB1 (io), 19 P1.7/OCMPA1 (io), 20 P1.8/OCMPA0/INT0 (io), 21 P1.9/OCMPB0/INT1 (io), 22 P1.10/ICAPB0/WUP28 (io), 23 P1.11/ICAPA0/WUP29 (io), 24 P1.12/ICAPA1/WUP30 (io), 25 P1.13/ICAPB1/WUP31 (io), 26 P1.14/WUP12 (io), 27 P1.15 (io), 28 P2.0/PWM0 (io), 29 P2.1/WUP13 (io), 30 P2.2 (io), 31 P2.3/PWM1 (io), 32 P2.4/PWM2 (io), 41 P2.8/TDO1 (io), 42 P2.9/RDI1/WUP14 (io), 43 P2.14/SCL0/WUP15 (io), 44 P2.15/SDA0 (io), 49 P3.4/AIN0 (io), 50 P3.5/AIN1 (io), 51 P3.6/AIN2 (io), 52 P3.7/AIN3 (io), 55 P3.8/AIN4 (io), 56 P3.9/AIN5 (io), 57 P3.10/AIN6 (io), 58 P3.11/AIN7 (io), 59 P3.12/AIN8/INT2 (io), 60 P3.13/AIN9/INT3 (io), 61 P3.14/AIN10/INT4 (io), 62 P3.15/AIN11/INT5 (io), 72 P4.6/SCL1/WUP19 (io), 73 P4.7/SDA1 (io), 74 P4.10/ICAPB5/WUP20 (io), 75 P4.14/~{SS1} (io), 76 P4.15/SCK1/WUP22 (io), 77 P5.0/MOSI1 (io), 78 P5.1/MISO1 (io), 79 P5.4/~{SS2}/PWM3 (io), 80 P5.5/SCK2/WUP23 (io), 81 P5.6/MOSI2 (io), 82 P5.7/MISO2 (io), 83 P5.8/PWM4/INT6 (io), 84 P5.9/PWM5/INT7 (io), 85 P5.10/RDI2/INT8 (io), 86 P5.11/TDO2/INT9 (io), 87 P5.12/INT10 (io), 91 P6.0/WUP0 (io), 92 P6.2/RDI3/WUP2 (io), 93 P6.4/TDO3/WUP4 (io), 94 P6.6/WUP6 (io), 95 P6.8/RDI0/WUP10 (io), 96 P6.9/TDO0 (io), 97 P6.11/MISO0 (io), 98 P6.12/MOSI0 (io), 99 P6.13/SCK0/WUP11 (io), 100 P6.14/~{SS0} (io)
part B pins: 33 M0 (in), 34 ~{RSTIN} (in), 35 M1 (in), 38 XTAL1 (in), 39 XTAL2, 45 TEST (in)
part C pins: 65 ~{JTRST} (in), 66 JTDI (in), 67 JTMS (in), 68 JTCK (in), 69 JTDO (out)
part D pins: 8 VDD (power), 9 VSS (power), 36 VDD (power), 37 VSS (power), 40 VSS (power), 46 VBIAS (power), 47 VSS (power), 48 VDD (power), 53 VSSA (power), 54 VDDA (power), 63 VDD (power), 64 VSS (power), 70 VSS (power), 71 VDD (power), 88 V18 (power), 89 VSS (power), 90 VDD (power)

## STR736FV2T6
designator U?
ARM7TDMI-S 32-Bit RISC CPU, 256KB Flash Memory, 100-pin TQFP; Published: 12-Dec-2006; DatasheetVersion: rev6, Sep-2006; PackageVersion: Dec-2002; PackageReference: TQFP100; Publisher: Altium Limited; PackageDescription: 100-Pin Thin Quad Flat Pack 0.5 mm Pitch; ComponentLink1Description: Manufacturer Link; ComponentLink1URL: http://www.st.com/; ComponentLink2Description: Datasheet; ComponentLink2URL: http://www.st.com/stonline/products/literature/ds/11651.pdf
footprint TQFP100_N (Thin QFP, 100-Leads, Body 14x14mm, Pitch 0.5mm, IPC Medium Density)
footprint TQFP100_L (Thin QFP, 100-Leads, Body 14x14mm, Pitch 0.5mm, IPC High Density)
footprint TQFP100_M (Thin QFP, 100-Leads, Body 14x14mm, Pitch 0.5mm, IPC Low Density)
part A pins: 1 P0.0/OCMPB2 (io), 2 P0.1/OCMPA2 (io), 3 P0.2/ICAPA2 (io), 4 P0.3/ICAPB2 (io), 5 P0.4/OCMPA5 (io), 6 P0.5/OCMPB5 (io), 7 P0.6/ICAPA5 (io), 10 P0.12/ICAPA3 (io), 11 P0.13/ICAPB3 (io), 12 P0.14/OCMPB3 (io), 13 P0.15/OCMPA3 (io), 14 P1.0/OCMPA4 (io), 15 P1.1/OCMPB4 (io), 16 P1.2/ICAPB4 (io), 17 P1.3/ICAPA4 (io), 18 P1.6/OCMPB1 (io), 19 P1.7/OCMPA1 (io), 20 P1.8/OCMPA0/INT0 (io), 21 P1.9/OCMPB0/INT1 (io), 22 P1.10/ICAPB0/WUP28 (io), 23 P1.11/ICAPA0/WUP29 (io), 24 P1.12/ICAPA1/WUP30 (io), 25 P1.13/ICAPB1/WUP31 (io), 26 P1.14/WUP12 (io), 27 P1.15 (io), 28 P2.0/PWM0 (io), 29 P2.1/WUP13 (io), 30 P2.2 (io), 31 P2.3/PWM1 (io), 32 P2.4/PWM2 (io), 41 P2.8/TDO1 (io), 42 P2.9/RDI1/WUP14 (io), 43 P2.14/SCL0/WUP15 (io), 44 P2.15/SDA0 (io), 49 P3.4/AIN0 (io), 50 P3.5/AIN1 (io), 51 P3.6/AIN2 (io), 52 P3.7/AIN3 (io), 55 P3.8/AIN4 (io), 56 P3.9/AIN5 (io), 57 P3.10/AIN6 (io), 58 P3.11/AIN7 (io), 59 P3.12/AIN8/INT2 (io), 60 P3.13/AIN9/INT3 (io), 61 P3.14/AIN10/INT4 (io), 62 P3.15/AIN11/INT5 (io), 72 P4.6/SCL1/WUP19 (io), 73 P4.7/SDA1 (io), 74 P4.10/ICAPB5/WUP20 (io), 75 P4.14/~{SS1} (io), 76 P4.15/SCK1/WUP22 (io), 77 P5.0/MOSI1 (io), 78 P5.1/MISO1 (io), 79 P5.4/~{SS2}/PWM3 (io), 80 P5.5/SCK2/WUP23 (io), 81 P5.6/MOSI2 (io), 82 P5.7/MISO2 (io), 83 P5.8/PWM4/INT6 (io), 84 P5.9/PWM5/INT7 (io), 85 P5.10/RDI2/INT8 (io), 86 P5.11/TDO2/INT9 (io), 87 P5.12/INT10 (io), 91 P6.0/WUP0 (io), 92 P6.2/RDI3/WUP2 (io), 93 P6.4/TDO3/WUP4 (io), 94 P6.6/WUP6 (io), 95 P6.8/RDI0/WUP10 (io), 96 P6.9/TDO0 (io), 97 P6.11/MISO0 (io), 98 P6.12/MOSI0 (io), 99 P6.13/SCK0/WUP11 (io), 100 P6.14/~{SS0} (io)
part B pins: 33 M0 (in), 34 ~{RSTIN} (in), 35 M1 (in), 38 XTAL1 (in), 39 XTAL2, 45 TEST (in)
part C pins: 65 ~{JTRST} (in), 66 JTDI (in), 67 JTMS (in), 68 JTCK (in), 69 JTDO (out)
part D pins: 8 VDD (power), 9 VSS (power), 36 VDD (power), 37 VSS (power), 40 VSS (power), 46 VBIAS (power), 47 VSS (power), 48 VDD (power), 53 VSSA (power), 54 VDDA (power), 63 VDD (power), 64 VSS (power), 70 VSS (power), 71 VDD (power), 88 V18 (power), 89 VSS (power), 90 VDD (power)

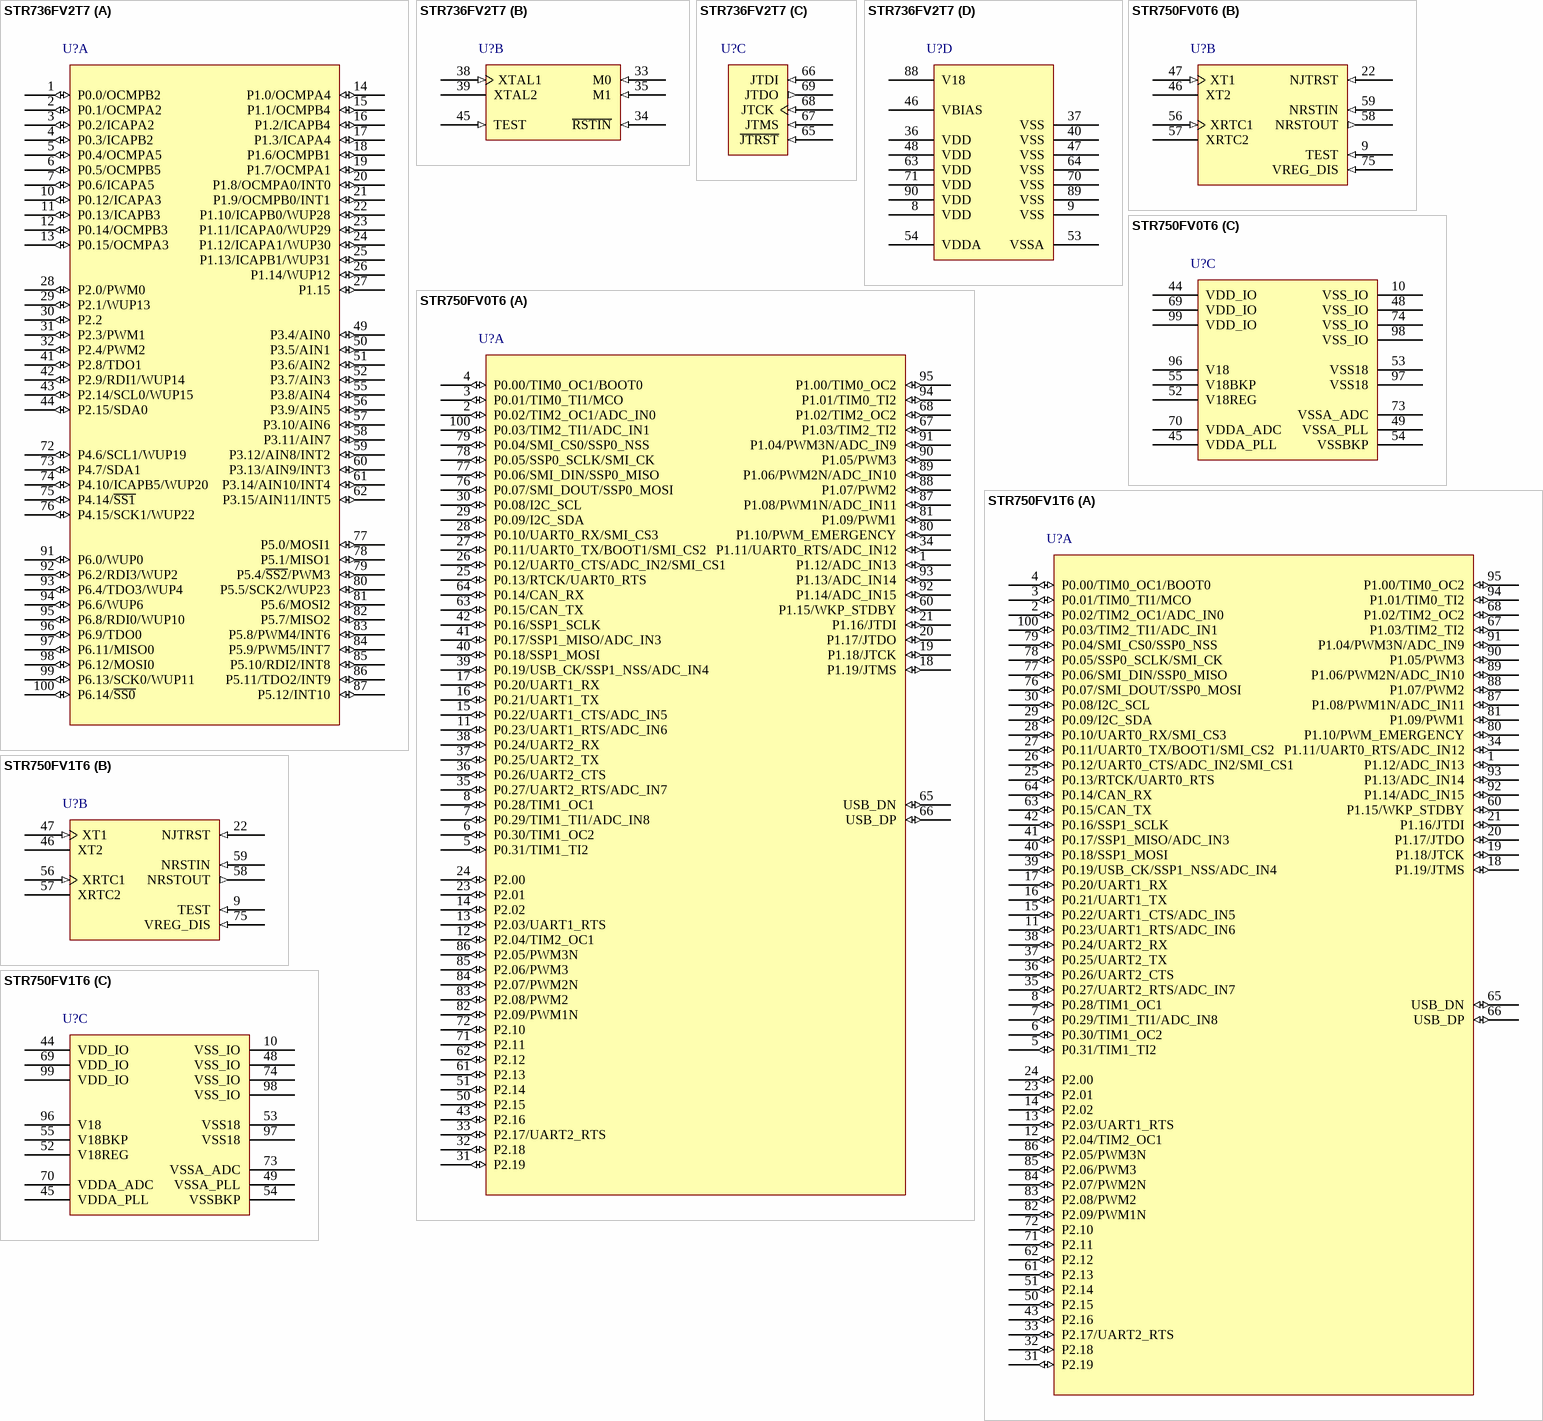
[diagram p14: symbols STR736FV2T7 to STR750FV1T6]

## STR736FV2T7
designator U?
ARM7TDMI-S 32-Bit RISC CPU, 256KB Flash Memory, 100-pin TQFP; Published: 12-Dec-2006; DatasheetVersion: rev6, Sep-2006; PackageVersion: Dec-2002; PackageReference: TQFP100; Publisher: Altium Limited; PackageDescription: 100-Pin Thin Quad Flat Pack 0.5 mm Pitch; ComponentLink1Description: Manufacturer Link; ComponentLink1URL: http://www.st.com/; ComponentLink2Description: Datasheet; ComponentLink2URL: http://www.st.com/stonline/products/literature/ds/11651.pdf
footprint TQFP100_N (Thin QFP, 100-Leads, Body 14x14mm, Pitch 0.5mm, IPC Medium Density)
footprint TQFP100_L (Thin QFP, 100-Leads, Body 14x14mm, Pitch 0.5mm, IPC High Density)
footprint TQFP100_M (Thin QFP, 100-Leads, Body 14x14mm, Pitch 0.5mm, IPC Low Density)
part A pins: 1 P0.0/OCMPB2 (io), 2 P0.1/OCMPA2 (io), 3 P0.2/ICAPA2 (io), 4 P0.3/ICAPB2 (io), 5 P0.4/OCMPA5 (io), 6 P0.5/OCMPB5 (io), 7 P0.6/ICAPA5 (io), 10 P0.12/ICAPA3 (io), 11 P0.13/ICAPB3 (io), 12 P0.14/OCMPB3 (io), 13 P0.15/OCMPA3 (io), 14 P1.0/OCMPA4 (io), 15 P1.1/OCMPB4 (io), 16 P1.2/ICAPB4 (io), 17 P1.3/ICAPA4 (io), 18 P1.6/OCMPB1 (io), 19 P1.7/OCMPA1 (io), 20 P1.8/OCMPA0/INT0 (io), 21 P1.9/OCMPB0/INT1 (io), 22 P1.10/ICAPB0/WUP28 (io), 23 P1.11/ICAPA0/WUP29 (io), 24 P1.12/ICAPA1/WUP30 (io), 25 P1.13/ICAPB1/WUP31 (io), 26 P1.14/WUP12 (io), 27 P1.15 (io), 28 P2.0/PWM0 (io), 29 P2.1/WUP13 (io), 30 P2.2 (io), 31 P2.3/PWM1 (io), 32 P2.4/PWM2 (io), 41 P2.8/TDO1 (io), 42 P2.9/RDI1/WUP14 (io), 43 P2.14/SCL0/WUP15 (io), 44 P2.15/SDA0 (io), 49 P3.4/AIN0 (io), 50 P3.5/AIN1 (io), 51 P3.6/AIN2 (io), 52 P3.7/AIN3 (io), 55 P3.8/AIN4 (io), 56 P3.9/AIN5 (io), 57 P3.10/AIN6 (io), 58 P3.11/AIN7 (io), 59 P3.12/AIN8/INT2 (io), 60 P3.13/AIN9/INT3 (io), 61 P3.14/AIN10/INT4 (io), 62 P3.15/AIN11/INT5 (io), 72 P4.6/SCL1/WUP19 (io), 73 P4.7/SDA1 (io), 74 P4.10/ICAPB5/WUP20 (io), 75 P4.14/~{SS1} (io), 76 P4.15/SCK1/WUP22 (io), 77 P5.0/MOSI1 (io), 78 P5.1/MISO1 (io), 79 P5.4/~{SS2}/PWM3 (io), 80 P5.5/SCK2/WUP23 (io), 81 P5.6/MOSI2 (io), 82 P5.7/MISO2 (io), 83 P5.8/PWM4/INT6 (io), 84 P5.9/PWM5/INT7 (io), 85 P5.10/RDI2/INT8 (io), 86 P5.11/TDO2/INT9 (io), 87 P5.12/INT10 (io), 91 P6.0/WUP0 (io), 92 P6.2/RDI3/WUP2 (io), 93 P6.4/TDO3/WUP4 (io), 94 P6.6/WUP6 (io), 95 P6.8/RDI0/WUP10 (io), 96 P6.9/TDO0 (io), 97 P6.11/MISO0 (io), 98 P6.12/MOSI0 (io), 99 P6.13/SCK0/WUP11 (io), 100 P6.14/~{SS0} (io)
part B pins: 33 M0 (in), 34 ~{RSTIN} (in), 35 M1 (in), 38 XTAL1 (in), 39 XTAL2, 45 TEST (in)
part C pins: 65 ~{JTRST} (in), 66 JTDI (in), 67 JTMS (in), 68 JTCK (in), 69 JTDO (out)
part D pins: 8 VDD (power), 9 VSS (power), 36 VDD (power), 37 VSS (power), 40 VSS (power), 46 VBIAS (power), 47 VSS (power), 48 VDD (power), 53 VSSA (power), 54 VDDA (power), 63 VDD (power), 64 VSS (power), 70 VSS (power), 71 VDD (power), 88 V18 (power), 89 VSS (power), 90 VDD (power)

## STR750FV0T6
designator U?
ARM7TDMI-S 32-Bit RISC CPU, 64KB Flash Memory, 100-pin LQFP, with USB & CAN Peripherals; Published: 12-Dec-2006; DatasheetVersion: rev1, Sep-2006; PackageVersion: Dec-2002; PackageReference: TQFP100; Publisher: Altium Limited; PackageDescription: 100-Pin Thin Quad Flat Pack 0.5 mm Pitch; ComponentLink1Description: Manufacturer Link; ComponentLink1URL: http://www.st.com/; ComponentLink2Description: Datasheet; ComponentLink2URL: http://www.st.com/stonline/products/literature/ds/11260.pdf
footprint TQFP100_N (Thin QFP, 100-Leads, Body 14x14mm, Pitch 0.5mm, IPC Medium Density)
footprint TQFP100_L (Thin QFP, 100-Leads, Body 14x14mm, Pitch 0.5mm, IPC High Density)
footprint TQFP100_M (Thin QFP, 100-Leads, Body 14x14mm, Pitch 0.5mm, IPC Low Density)
part A pins: 1 P1.12/ADC_IN13 (io), 2 P0.02/TIM2_OC1/ADC_IN0 (io), 3 P0.01/TIM0_TI1/MCO (io), 4 P0.00/TIM0_OC1/BOOT0 (io), 5 P0.31/TIM1_TI2 (io), 6 P0.30/TIM1_OC2 (io), 7 P0.29/TIM1_TI1/ADC_IN8 (io), 8 P0.28/TIM1_OC1 (io), 11 P0.23/UART1_RTS/ADC_IN6 (io), 12 P2.04/TIM2_OC1 (io), 13 P2.03/UART1_RTS (io), 14 P2.02 (io), 15 P0.22/UART1_CTS/ADC_IN5 (io), 16 P0.21/UART1_TX (io), 17 P0.20/UART1_RX (io), 18 P1.19/JTMS (io), 19 P1.18/JTCK (io), 20 P1.17/JTDO (io), 21 P1.16/JTDI (io), 23 P2.01 (io), 24 P2.00 (io), 25 P0.13/RTCK/UART0_RTS (io), 26 P0.12/UART0_CTS/ADC_IN2/SMI_CS1 (io), 27 P0.11/UART0_TX/BOOT1/SMI_CS2 (io), 28 P0.10/UART0_RX/SMI_CS3 (io), 29 P0.09/I2C_SDA (io), 30 P0.08/I2C_SCL (io), 31 P2.19 (io), 32 P2.18 (io), 33 P2.17/UART2_RTS (io), 34 P1.11/UART0_RTS/ADC_IN12 (io), 35 P0.27/UART2_RTS/ADC_IN7 (io), 36 P0.26/UART2_CTS (io), 37 P0.25/UART2_TX (io), 38 P0.24/UART2_RX (io), 39 P0.19/USB_CK/SSP1_NSS/ADC_IN4 (io), 40 P0.18/SSP1_MOSI (io), 41 P0.17/SSP1_MISO/ADC_IN3 (io), 42 P0.16/SSP1_SCLK (io), 43 P2.16 (io), 50 P2.15 (io), 51 P2.14 (io), 60 P1.15/WKP_STDBY (io), 61 P2.13 (io), 62 P2.12 (io), 63 P0.15/CAN_TX (io), 64 P0.14/CAN_RX (io), 65 USB_DN (io), 66 USB_DP (io), 67 P1.03/TIM2_TI2 (io), 68 P1.02/TIM2_OC2 (io), 71 P2.11 (io), 72 P2.10 (io), 76 P0.07/SMI_DOUT/SSP0_MOSI (io), 77 P0.06/SMI_DIN/SSP0_MISO (io), 78 P0.05/SSP0_SCLK/SMI_CK (io), 79 P0.04/SMI_CS0/SSP0_NSS (io), 80 P1.10/PWM_EMERGENCY (io), 81 P1.09/PWM1 (io), 82 P2.09/PWM1N (io), 83 P2.08/PWM2 (io), 84 P2.07/PWM2N (io), 85 P2.06/PWM3 (io), 86 P2.05/PWM3N (io), 87 P1.08/PWM1N/ADC_IN11 (io), 88 P1.07/PWM2 (io), 89 P1.06/PWM2N/ADC_IN10 (io), 90 P1.05/PWM3 (io), 91 P1.04/PWM3N/ADC_IN9 (io), 92 P1.14/ADC_IN15 (io), 93 P1.13/ADC_IN14 (io), 94 P1.01/TIM0_TI2 (io), 95 P1.00/TIM0_OC2 (io), 100 P0.03/TIM2_TI1/ADC_IN1 (io)
part B pins: 9 TEST (in), 22 NJTRST (in), 46 XT2, 47 XT1 (in), 56 XRTC1 (in), 57 XRTC2, 58 NRSTOUT (out), 59 NRSTIN (in), 75 VREG_DIS (in)
part C pins: 10 VSS_IO (power), 44 VDD_IO (power), 45 VDDA_PLL (power), 48 VSS_IO (power), 49 VSSA_PLL (power), 52 V18REG (power), 53 VSS18 (power), 54 VSSBKP (power), 55 V18BKP (power), 69 VDD_IO (power), 70 VDDA_ADC (power), 73 VSSA_ADC (power), 74 VSS_IO (power), 96 V18 (power), 97 VSS18 (power), 98 VSS_IO (power), 99 VDD_IO (power)